# Altium schematic symbol library MY.SchLib: 652 symbols (part 5 of 7)
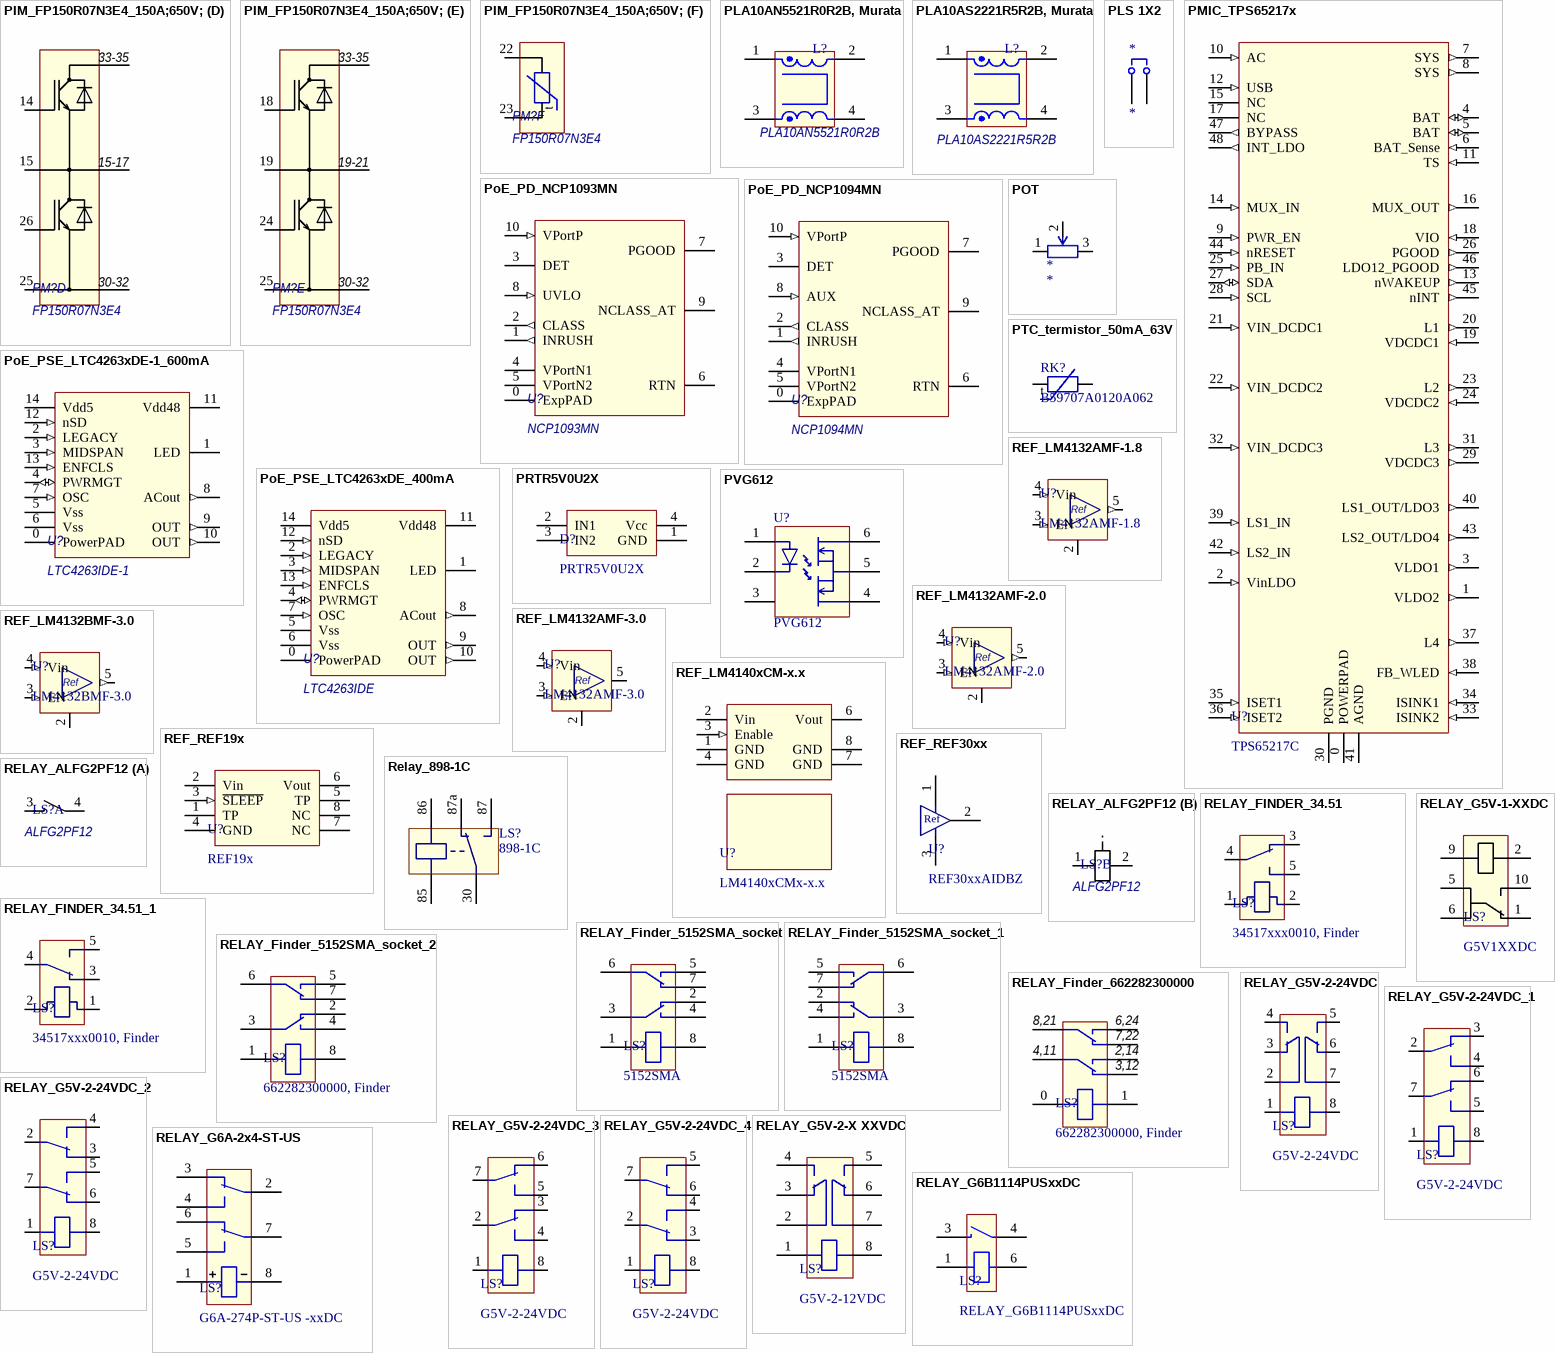
[diagram p45: symbols PIM_FP150R07N3E4_150A;650V; to RELAY_G6B1114PUSxxDC]

## PMIC_TPS65217x
designator U?, comment TPS65217C
footprint QFN48_0.4_TPS65217
pins: 0 POWERPAD (power), 1 VLDO2 (out), 2 VinLDO (in), 3 VLDO1 (out), 4 BAT (io), 5 BAT (io), 6 BAT_Sense (in), 7 SYS (out), 8 SYS (out), 9 PWR_EN (in), 10 AC (in), 11 TS (in), 12 USB (in), 13 nWAKEUP (out), 14 MUX_IN (in), 15 NC, 16 MUX_OUT (out), 17 NC, 18 VIO (in), 19 VDCDC1 (in), 20 L1 (out), 21 VIN_DCDC1 (in), 22 VIN_DCDC2 (in), 23 L2 (out), 24 VDCDC2 (in), 25 PB_IN (in), 26 PGOOD (out), 27 SDA (io), 28 SCL (in), 29 VDCDC3 (out), 30 PGND (power), 31 L3 (out), 32 VIN_DCDC3 (in), 33 ISINK2 (in), 34 ISINK1 (in), 35 ISET1 (in), 36 ISET2 (in), 37 L4 (out), 38 FB_WLED (in), 39 LS1_IN (in), 40 LS1_OUT/LDO3 (out), 41 AGND (power), 42 LS2_IN (in), 43 LS2_OUT/LDO4 (out), 44 nRESET (in), 45 nINT (out), 46 LDO12_PGOOD (out), 47 BYPASS (out), 48 INT_LDO (out)

## PoE_PD_NCP1093MN
designator U?, comment NCP1093MN
HelpURL: L:\Dev\Техническая документация\PoE\PD controllers\ONsemiconductor\NCP1093-D.PDF; ComponentLink1Description: Schematic; ComponentLink1URL: L:\Dev\Техническая документация\PoE\PD controllers\ONsemiconductor\NCP1094GEVB_SCHEMATIC.PDF
footprint DFN-10_3x3_0.5p
pins: 0 ExpPAD (power), 1 INRUSH (out), 2 CLASS (out), 3 DET (oc), 4 VPortN1 (power), 5 VPortN2 (power), 6 RTN (power), 7 PGOOD (oc), 8 UVLO (in), 9 NCLASS_AT (oc), 10 VPortP (in)

## PoE_PD_NCP1094MN
designator U?, comment NCP1094MN
HelpURL: L:\Dev\Техническая документация\PoE\PD controllers\ONsemiconductor\NCP1093-D.PDF
footprint DFN-10_3x3_0.5p
pins: 0 ExpPAD (power), 1 INRUSH (out), 2 CLASS (out), 3 DET (oc), 4 VPortN1 (power), 5 VPortN2 (power), 6 RTN (power), 7 PGOOD (oc), 8 AUX (in), 9 NCLASS_AT (oc), 10 VPortP (in)

## PoE_PSE_LTC4263xDE-1_600mA
designator U?, comment LTC4263IDE-1
Analog: LTC4263CDE-1(0-70dg)
pins: 0 PowerPAD (power), 1 LED (oc), 2 LEGACY (in), 3 MIDSPAN (in), 4 PWRMGT (io), 5 Vss (power), 6 Vss (power), 7 OSC (in), 8 ACout (out), 9 OUT (out), 10 OUT (out), 11 Vdd48, 12 nSD (in), 13 ENFCLS (in), 14 Vdd5 (power)

## PoE_PSE_LTC4263xDE_400mA
designator U?, comment LTC4263IDE
Analog: LTC4263CDE(0-70dg);LTC4263IDE-1_600mA;LTC4263CDE-1(0-70dg); HelpURL: L:\Dev\Техническая документация\PoE\PSE controllers\LT\LTC4263.pdf
footprint DFN-14_3x4_0.5p_LT
pins: 0 PowerPAD (power), 1 LED (oc), 2 LEGACY (in), 3 MIDSPAN (in), 4 PWRMGT (io), 5 Vss (power), 6 Vss (power), 7 OSC (in), 8 ACout (out), 9 OUT (out), 10 OUT (out), 11 Vdd48, 12 nSD (in), 13 ENFCLS (in), 14 Vdd5 (power)

## POT
designator *
footprint PVC6(A)(D)(M)-HOR&3386(F)(P)(Y)
pins: 1, 2, 3

## PRTR5V0U2X
designator D?
footprint SOT143B
pins: 1 GND (power), 2 IN1 (power), 3 IN2 (power), 4 Vcc (power)

## PTC_termistor_50mA_63V
designator RK?, comment B59707A0120A062
Rr: 125Ohm; U: 63V; Ir: 50mA; Is: 90mA
footprint 1210
pins: 1, 2
text: t

## PVG612
designator U?
footprint DIP6
pins: 1, 2, 3, 4, 5, 6

## REF_LM4132AMF-1.8
designator U?, comment LM4132AMF-1.8
InitTolerance: 0.05%; Temperature _Coefficient: 20ppm; Vref: 1V8; HelpURL: L:\Dev\Техническая документация\Источники опорного напряжения\Выход по напряжению\LM4132.pdf
footprint SOT23-5
footprint SOT23 (SOT-23; 3 Leads; Body 3.0 x 2.5 mm, inc. leads (LxW max))
pins: 1 NC hidden, 2 GND, 3 EN (in), 4 Vin (in), 5 Vref (out)
text: Ref

## REF_LM4132AMF-2.0
designator U?, comment LM4132AMF-2.0
InitTolerance: 0.05%; Temperature _Coefficient: 20ppm; Vref: 2V0; HelpURL: L:\Dev\Техническая документация\Источники опорного напряжения\Выход по напряжению\LM4132.pdf
footprint SOT23-5
footprint SOT23 (SOT-23; 3 Leads; Body 3.0 x 2.5 mm, inc. leads (LxW max))
pins: 1 NC hidden, 2 GND, 3 EN (in), 4 Vin (in), 5 Vref (out)
text: Ref

## REF_LM4132AMF-3.0
designator U?, comment LM4132AMF-3.0
InitTolerance: 0.05%; Temperature _Coefficient: 20ppm; Vref: 3V0; HelpURL: L:\Dev\Техническая документация\Источники опорного напряжения\Выход по напряжению\LM4132.pdf
footprint SOT23-5
footprint SOT23 (SOT-23; 3 Leads; Body 3.0 x 2.5 mm, inc. leads (LxW max))
pins: 1 NC hidden, 2 GND, 3 EN (in), 4 Vin (in), 5 Vref (power)
text: Ref

## REF_LM4132BMF-3.0
designator U?, comment LM4132BMF-3.0
InitTolerance: 0.1%; Temperature _Coefficient: 20ppm; Vref: 3V0; HelpURL: L:\Dev\Техническая документация\Источники опорного напряжения\Выход по напряжению\LM4132.pdf
footprint SOT23-5
footprint SOT23 (SOT-23; 3 Leads; Body 3.0 x 2.5 mm, inc. leads (LxW max))
pins: 1 NC hidden, 2 GND, 3 EN (in), 4 Vin (in), 5 Vref (out)
text: Ref

## REF_LM4140xCM-x.x
designator U?, comment LM4140xCMx-x.x
IC
footprint SO8
pins: 1 GND (power), 2 Vin (power), 3 Enable (in), 4 GND (power), 6 Vout (power), 7 GND (power), 8 GND (power)

## REF_REF19x
designator U?, comment REF19x
IC
footprint SO8
pins: 1 TP (power), 2 Vin (power), 3 ~{SLEEP} (in), 4 GND (power), 5 TP (power), 6 Vout (power), 7 NC (power), 8 NC (power)

## REF_REF30xx
designator U?, comment REF30xxAIDBZ
footprint Model Name (Footprint not found)
footprint SOT23 (SOT-23; 3 Leads; Body 3.0 x 2.5 mm, inc. leads (LxW max))
pins: 1 IN (power), 2 OUT (power), 3 GND (power)
text: Ref

## Relay_898-1C
designator LS?, comment 898-1C
footprint Relay_898-1C...
pins: 30, 85, 86, 87, 87a

## RELAY_ALFG2PF12
designator LS?, comment value ALFG2PF12  (hidden comment: ALFG2PF12, Panasonic)
HelpURL: L:\Dev\Техническая документация\РЕЛЕ\Panasonic\LF-G_Series_22-31A.pdf; Price, $: 7$
footprint RELAY_ALFG
part A pins: 3, 4
part B pins: 1, 2

## RELAY_FINDER_34.51
designator LS?, comment 34517xxx0010, Finder
Answer: 93.11, цоколь; HelpURL: L:\Dev\Техническая документация\РЕЛЕ\Finder\34-series.pdf
footprint RELAY_34517xxx0010
pins: 1, 2, 3, 4, 5

## RELAY_FINDER_34.51_1
designator LS?, comment 34517xxx0010, Finder
Answer: 93.11, цоколь; HelpURL: L:\Dev\Техническая документация\РЕЛЕ\Finder\34-series.pdf
footprint RELAY_34517xxx0010
pins: 1, 2, 3, 4, 5

## RELAY_Finder_5152SMA_socket
designator LS?, comment 5152SMA
Answer: 405190240000, Finder, 406190240000, Finder
footprint Relay_95152SMA_Socket&405190240000
pins: 1, 2, 3, 4, 5, 6, 7, 8

## RELAY_Finder_5152SMA_socket_1
designator LS?, comment 5152SMA
Answer: 405190240000, Finder, 406190240000, Finder
footprint Relay_95152SMA_Socket&405190240000
pins: 1, 2, 3, 4, 5, 6, 7, 8

## RELAY_Finder_5152SMA_socket_2
designator LS?, comment 662282300000, Finder
footprint Relay_95152SMA_Socket&405190240000
pins: 1, 2, 3, 4, 5, 6, 7, 8

## RELAY_Finder_662282300000
designator LS?, comment 662282300000, Finder
footprint RELAY_662282300000_Finder
pins: 0, 1, 2, 3, 4, 6, 7, 8, 11, 12, 14, 21, 22, 24
text: 8,21; 6,24; 7,22; 4,11; 2,14; 3,12

## RELAY_G5V-1-XXDC
designator LS?, comment G5V1XXDC
HelpURL: \\fileserver\библиотека\Unicont SPb\Equipment\Техническая документация\РЕЛЕ\OMRON\G5V1.pdf
footprint RELAY_G5V1
pins: 1, 2, 5, 6, 9, 10

## RELAY_G5V-2-24VDC
designator LS?, comment G5V-2-24VDC
Analog: *; HelpURL: L:\Dev\Техническая документация\РЕЛЕ\OMRON\omron~g5v2.pdf
footprint Relay_G5V-2
pins: 1, 2, 3, 4, 5, 6, 7, 8

## RELAY_G5V-2-24VDC_1
designator LS?, comment G5V-2-24VDC
Analog: *; HelpURL: L:\Dev\Техническая документация\РЕЛЕ\OMRON\omron~g5v2.pdf
footprint Relay_G5V-2
pins: 1, 2, 3, 4, 5, 6, 7, 8

## RELAY_G5V-2-24VDC_2
designator LS?, comment G5V-2-24VDC
Analog: V23105A5405A201, TE; V23105A5505A201, TE; HelpURL: L:\Dev\Техническая документация\РЕЛЕ\OMRON\omron~g5v2.pdf; ComponentLink1Description: Analog TE; ComponentLink1URL: L:\Dev\Техническая документация\РЕЛЕ\Tyco\te~v23105---d2n-relay.pdf
footprint Relay_G5V-2
pins: 1, 2, 3, 4, 5, 6, 7, 8

## RELAY_G5V-2-24VDC_3
designator LS?, comment G5V-2-24VDC
Analog: V23105A5405A201, TE; V23105A5505A201, TE; HelpURL: L:\Dev\Техническая документация\РЕЛЕ\OMRON\omron~g5v2.pdf; ComponentLink1Description: Analog TE; ComponentLink1URL: L:\Dev\Техническая документация\РЕЛЕ\Tyco\te~v23105---d2n-relay.pdf
footprint Relay_G5V-2
pins: 1, 2, 3, 4, 5, 6, 7, 8

## RELAY_G5V-2-24VDC_4
designator LS?, comment G5V-2-24VDC
Analog: V23105A5405A201, TE; V23105A5505A201, TE; HelpURL: L:\Dev\Техническая документация\РЕЛЕ\OMRON\omron~g5v2.pdf; ComponentLink1Description: Analog TE; ComponentLink1URL: L:\Dev\Техническая документация\РЕЛЕ\Tyco\te~v23105---d2n-relay.pdf
footprint Relay_G5V-2
pins: 1, 2, 3, 4, 5, 6, 7, 8

## RELAY_G5V-2-X XXVDC
designator LS?, comment G5V-2-12VDC
footprint Relay_G5V-2
pins: 1, 2, 3, 4, 5, 6, 7, 8

## RELAY_G6A-2x4-ST-US
designator LS?, comment G6A-274P-ST-US -xxDC
footprint Relay_G6A-2
pins: 1, 2, 3, 4, 5, 6, 7, 8

## RELAY_G6B1114PUSxxDC
designator LS?
footprint Relay_G6B-1114
pins: 1, 3, 4, 6

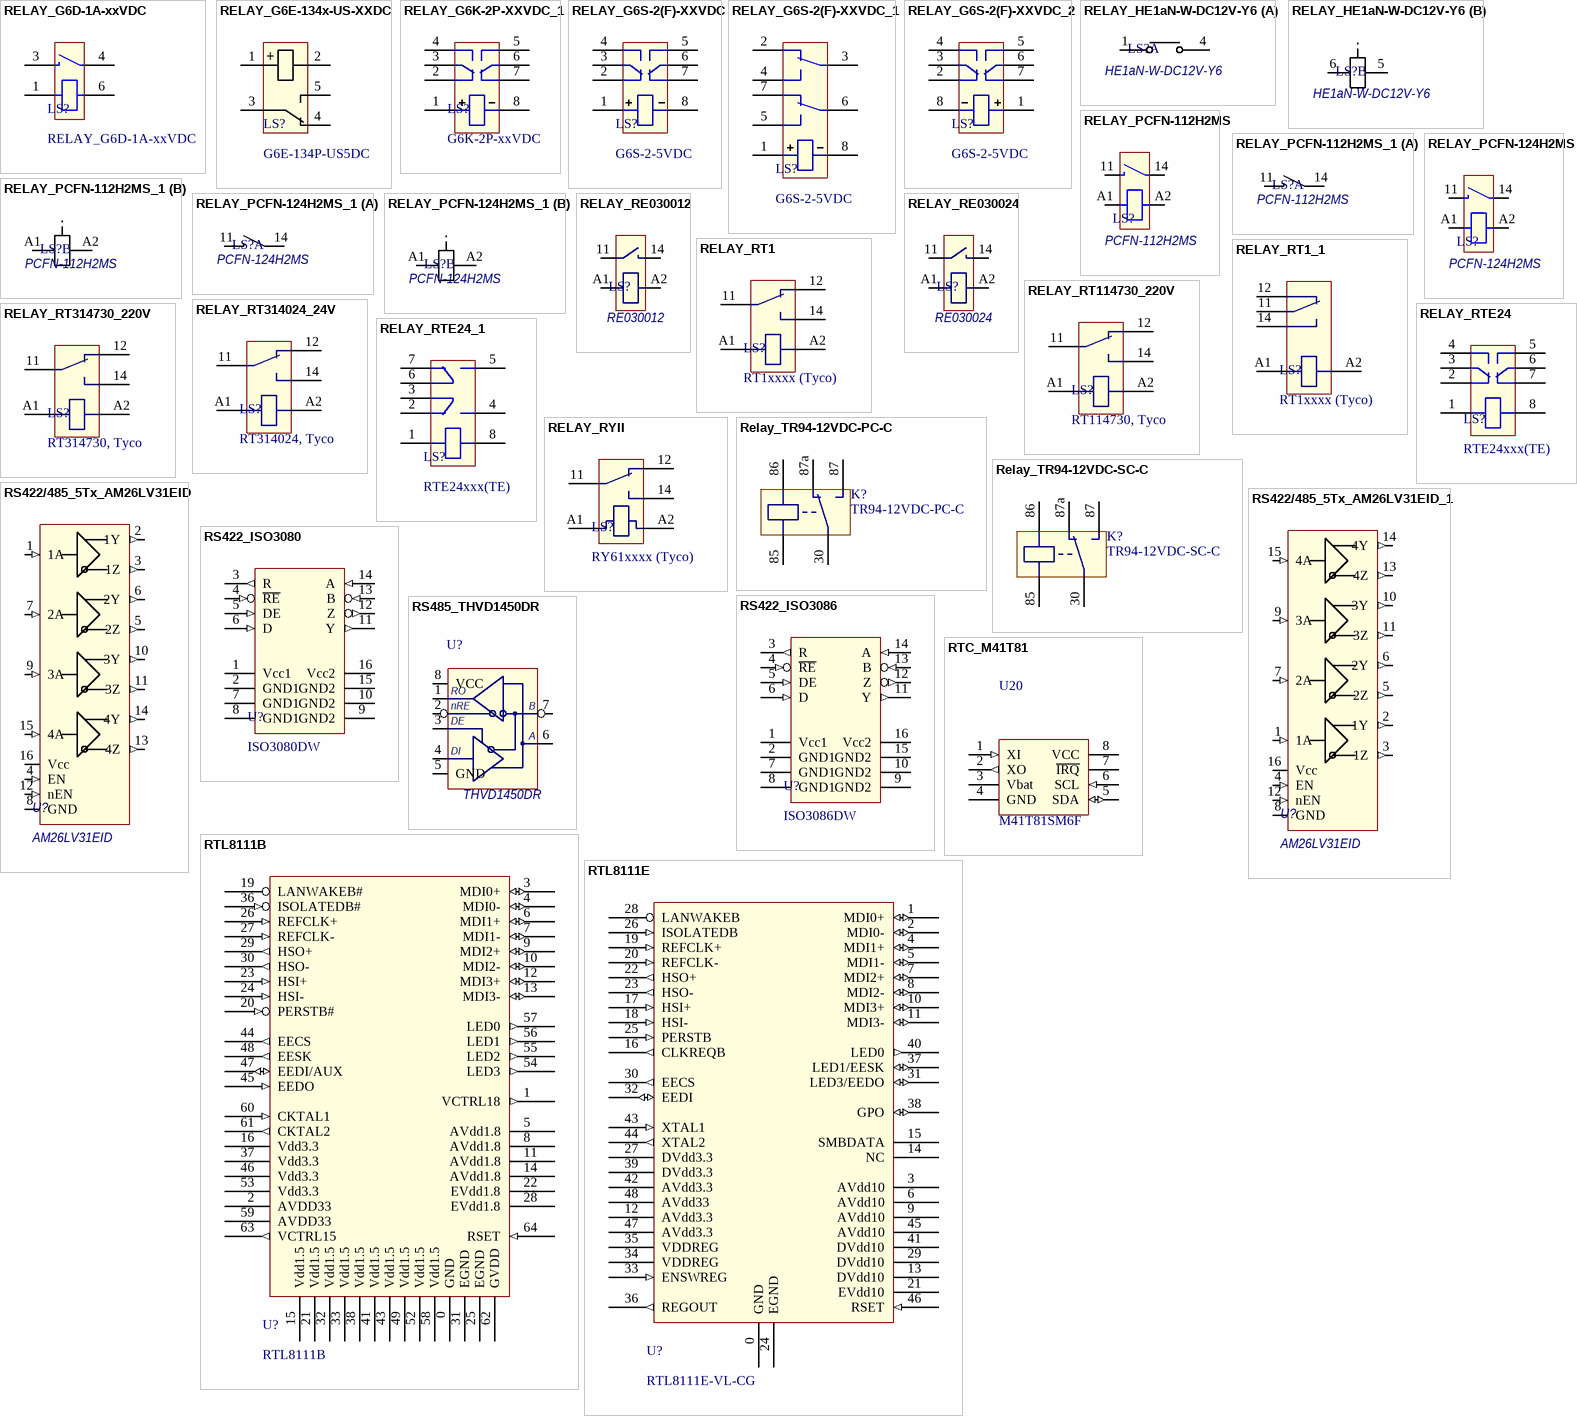
[diagram p24: symbols RELAY_G6D-1A-xxVDC to RTL8111E]

## RELAY_G6D-1A-xxVDC
designator LS?
HelpURL: L:\Dev\Техническая документация\РЕЛЕ\OMRON\G6D.pdf; ComponentLink1Description: Datasheet; ComponentLink1URL: L:\Dev\Техническая документация\РЕЛЕ\OMRON\G6D.pdf
footprint Relay_G6D
pins: 1, 3, 4, 6

## RELAY_G6E-134x-US-XXDC
designator LS?, comment G6E-134P-US5DC
HelpURL: \\fileserver\библиотека\Unicont SPb\Equipment\Техническая документация\РЕЛЕ\OMRON\G5V1.pdf
footprint RELAY_G6E
pins: 1 +, 2, 3, 4, 5

## RELAY_G6K-2P-XXVDC_1
designator LS?, comment G6K-2P-xxVDC
footprint Relay_G6K-2P(F,G)
pins: 1, 2, 3, 4, 5, 6, 7, 8

## RELAY_G6S-2(F)-XXVDC
designator LS?, comment G6S-2-5VDC
footprint Relay_G6S-2(F)
pins: 1, 2, 3, 4, 5, 6, 7, 8

## RELAY_G6S-2(F)-XXVDC_1
designator LS?, comment G6S-2-5VDC
footprint Relay_G6S-2(F)
pins: 1, 2, 3, 4, 5, 6, 7, 8

## RELAY_G6S-2(F)-XXVDC_2
designator LS?, comment G6S-2-5VDC
footprint Relay_G6S-2(F)
pins: 1, 2, 3, 4, 5, 6, 7, 8

## RELAY_HE1aN-W-DC12V-Y6
designator LS?, comment value HE1aN-W-DC12V-Y6  (hidden comment: HE1aN-W-DC12V-Y6, Panasonic)
HelpURL: L:\Dev\Техническая документация\РЕЛЕ\Panasonic\HE_series_35A_48A_90A.pdf; Price, $: 33$
footprint Relay_HE1aN-W-DCxxV-Y6
part A pins: 1, 4
part B pins: 5, 6

## RELAY_PCFN-112H2MS
designator LS?, comment value PCFN-112H2MS  (hidden comment: PCFN-112H2MS, TE)
HelpURL: L:\Dev\Техническая документация\РЕЛЕ\Tyco\Power_PCB_PCFN.pdf
footprint RELAY_PCFN
pins: 11, 14, A1, A2

## RELAY_PCFN-112H2MS_1
designator LS?, comment value PCFN-112H2MS  (hidden comment: PCFN-112H2MS, TE)
HelpURL: L:\Dev\Техническая документация\РЕЛЕ\Tyco\Power_PCB_PCFN.pdf; Price, $: 7$
footprint RELAY_PCFN
part A pins: 11, 14
part B pins: A1, A2

## RELAY_PCFN-124H2MS
designator LS?, comment value PCFN-124H2MS  (hidden comment: PCFN-124H2MS, TE)
HelpURL: L:\Dev\Техническая документация\РЕЛЕ\Tyco\Power_PCB_PCFN.pdf
footprint RELAY_PCFN
pins: 11, 14, A1, A2

## RELAY_PCFN-124H2MS_1
designator LS?, comment value PCFN-124H2MS  (hidden comment: PCFN-124H2MS, TE)
HelpURL: L:\Dev\Техническая документация\РЕЛЕ\Tyco\Power_PCB_PCFN.pdf
footprint RELAY_PCFN
part A pins: 11, 14
part B pins: A1, A2

## RELAY_RE030012
designator LS?, comment value RE030012  (hidden comment: RE030012, TE)
HelpURL: L:\Dev\Техническая документация\РЕЛЕ\Tyco\te~re03xxx.pdf
footprint RELAY_RE03xxxx
pins: 11, 14, A1, A2

## RELAY_RE030024
designator LS?, comment value RE030024  (hidden comment: RE030024, TE)
HelpURL: L:\Dev\Техническая документация\РЕЛЕ\Tyco\te~re03xxx.pdf
footprint RELAY_RE03xxxx
pins: 11, 14, A1, A2

## RELAY_RT1
designator LS?, comment RT1xxxx (Tyco)
Analog: TRIH-24VDC-SD-1CH-R (TS)
footprint RELAY_RT11
pins: 11, 12, 14, A1, A2

## RELAY_RT1_1
designator LS?, comment RT1xxxx (Tyco)
Analog: TRIH-24VDC-SD-1CH-R (TS)
footprint RELAY_RT11
pins: 11, 12, 14, A1, A2

## RELAY_RT114730_220V
designator LS?, comment RT114730, Tyco
HelpURL: L:\Dev\Техническая документация\РЕЛЕ\Tyco\te~rt1_power_relay.pdf
footprint RELAY_RT11
pins: 11, 12, 14, A1, A2

## RELAY_RT314024_24V
designator LS?, comment RT314024, Tyco
HelpURL: L:\Dev\Техническая документация\РЕЛЕ\Tyco\te~rt1_power_relay.pdf
footprint RELAY_RT31
pins: 11, 12, 14, A1, A2

## RELAY_RT314730_220V
designator LS?, comment RT314730, Tyco
HelpURL: L:\Dev\Техническая документация\РЕЛЕ\Tyco\te~rt1_power_relay.pdf
footprint RELAY_RT31
pins: 11, 12, 14, A1, A2

## RELAY_RTE24
designator LS?, comment RTE24xxx(TE)
Analog: G2RL (OMRON)
footprint Relay_TE24xxx_G2RL2
pins: 1, 2, 3, 4, 5, 6, 7, 8

## RELAY_RTE24_1
designator LS?, comment RTE24xxx(TE)
Analog: G2RL (OMRON)
footprint Relay_TE24xxx_G2RL2
pins: 1, 2, 3, 4, 5, 6, 7, 8

## RELAY_RYII
designator LS?, comment RY61xxxx (Tyco)
Analog: G2RL (OMRON)
footprint RELAY_RYII
pins: 11, 12, 14, A1, A2

## Relay_TR94-12VDC-PC-C
designator K?, comment TR94-12VDC-PC-C
footprint RELAY_TR94-xx-PC-C
pins: 30, 85, 86, 87, 87a

## Relay_TR94-12VDC-SC-C
designator K?, comment TR94-12VDC-SC-C
footprint RELAY_TR94-xx-SC-C
pins: 30, 85, 86, 87, 87a

## RS422/485_5Tx_AM26LV31EID
designator U?, comment AM26LV31EID
HelpURL: L:\Dev\Техническая документация\Интерфейсы\422-485\Driver_4xTx_am26lv31e.pdf
footprint SO16
pins: 1 1A (in), 2 1Y (out), 3 1Z (out), 4 EN (in), 5 2Z (out), 6 2Y (out), 7 2A (in), 8 GND (power), 9 3A (in), 10 3Y (out), 11 3Z (out), 12 nEN (in), 13 4Z (out), 14 4Y (out), 15 4A (in), 16 Vcc (power)

## RS422/485_5Tx_AM26LV31EID_1
designator U?, comment AM26LV31EID
HelpURL: L:\Dev\Техническая документация\Интерфейсы\422-485\Driver_4xTx_am26lv31e.pdf
footprint SO16
pins: 1 1A (in), 2 1Y (out), 3 1Z (out), 4 EN (in), 5 2Z (out), 6 2Y (out), 7 2A (in), 8 GND (power), 9 3A (in), 10 3Y (out), 11 3Z (out), 12 nEN (in), 13 4Z (out), 14 4Y (out), 15 4A (in), 16 Vcc (power)

## RS422_ISO3080
designator U?, comment ISO3080DW
Icc1: 10mA; DataRate: 200kbps; HelpURL: L:\Dev\Техническая документация\Интерфейсы\422-485\Isolate\iso3080_82_86_88.pdf
footprint SOW16
pins: 1 Vcc1 (power), 2 GND1 (power), 3 R (out), 4 ~{RE} (in), 5 DE (in), 6 D (in), 7 GND1 (power), 8 GND1 (power), 9 GND2 (power), 10 GND2 (power), 11 Y (out), 12 Z (out), 13 B (in), 14 A (in), 15 GND2 (power), 16 Vcc2 (power)

## RS422_ISO3086
designator U?, comment ISO3086DW
Icc1: 10mA; DataRate: 20Mbps; HelpURL: L:\Dev\Техническая документация\Интерфейсы\422-485\Isolate\iso3080_82_86_88.pdf
footprint SOW16
pins: 1 Vcc1 (power), 2 GND1 (power), 3 R (out), 4 ~{RE} (in), 5 DE (in), 6 D (in), 7 GND1 (power), 8 GND1 (power), 9 GND2 (power), 10 GND2 (power), 11 Y (out), 12 Z (out), 13 B (in), 14 A (in), 15 GND2 (power), 16 Vcc2 (power)

## RS485_THVD1450DR
designator U?, comment value THVD1450DR  (hidden comment: THVD1450DR, TI)
HelpURL: L:\Dev\Техническая документация\Интерфейсы\422-485\TI\thvd1450.pdf
footprint SO8
pins: 1 RO, 2 RE, 3, 4, 5 GND, 6, 7, 8 VCC
text: nRE; B; DE; A; DI

## RTC_M41T81
designator U20, comment M41T81SM6F
footprint SO8
pins: 1 XI (in), 2 XO (out), 3 Vbat (power), 4 GND (power), 5 SDA (io), 6 SCL (in), 7 ~{IRQ} (oc), 8 VCC (power)

## RTL8111B
designator U?
footprint QFN64
pins: 0 GND (power), 1 VCTRL18 (out) "Reg CTRL ext 1.8V power transistor", 2 AVDD33 (power), 3 MDI0+ (io) "GB_DATA", 4 MDI0- (io) "GB_DATA", 5 AVdd1.8 (power) "Analog 1.8V Power Supply", 6 MDI1+ (io) "GB_DATA", 7 MDI1- (io) "GB_DATA", 8 AVdd1.8 (power) "Analog 1.8V Power Supply", 9 MDI2+ (io) "GB_DATA", 10 MDI2- (io) "GB_DATA", 11 AVdd1.8 (power) "Analog 1.8V Power Supply", 12 MDI3+ (io) "GB_DATA", 13 MDI3- (io) "GB_DATA", 14 AVdd1.8 (power) "Analog 1.8V Power Supply", 15 Vdd1.5 (power) "Digital 1.5V Power Supply", 16 Vdd3.3 (power) "Digital 3.3V Power Supply", 17 NC hidden "NoConnect", 18 NC hidden "NoConnect", 19 LANWAKEB# (oc), 20 PERSTB# (in) "PCIe Reset", 21 Vdd1.5 (power) "Digital 1.5V Power Supply", 22 EVdd1.8 (power) "Analog 1.8V Power Supply", 23 HSI+ (in) "PCIe Receive", 24 HSI- (in) "PCIe Receive", 25 EGND (power), 26 REFCLK+ (in) "Clock source 100MHz", 27 REFCLK- (in) "Clock source 100MHz", 28 EVdd1.8 (power) "Analog 1.8V Power Supply", 29 HSO+ (out) "PCIe Transmit", 30 HSO- (out) "PCIe Transmit", 31 EGND (power), 32 Vdd1.5 (power) "Digital 1.5V Power Supply", 33 Vdd1.5 (power) "Digital 1.5V Power Supply", 34 NC hidden "NoConnect", 35 NC hidden "NoConnect", 36 ISOLATEDB# (in) "Isolate chip from PCIe bus", 37 Vdd3.3 (power) "Digital 3.3V Power Supply", 38 Vdd1.5 (power) "Digital 1.5V Power Supply", 39 NC hidden "NoConnect", 40 NC hidden "NoConnect", 41 Vdd1.5 (power) "Digital 1.5V Power Supply", 42 NC hidden "NoConnect", 43 Vdd1.5 (power) "Digital 1.5V Power Supply", 44 EECS (out) "EEPROM Chip Select", 45 EEDO (in) "Serial Data Input from EEPROM", 46 Vdd3.3 (power) "Digital 3.3V Power Supply", 47 EEDI/AUX (io) "Serial Data Output", 48 EESK (out) "Serial Data Clock", 49 Vdd1.5 (power) "Digital 1.5V Power Supply", 50 NC hidden "NoConnect", 51 NC hidden "NoConnect", 52 Vdd1.5 (power) "Digital 1.5V Power Supply", 53 Vdd3.3 (power) "Digital 3.3V Power Supply", 54 LED3 (out) "LINK 1000/Act", 55 LED2 (out) "FULL", 56 LED1 (out) "LINK100/Act", 57 LED0 (out) "LINK10/ACT", 58 Vdd1.5 (power) "Digital 1.5V Power Supply", 59 AVDD33 (power), 60 CKTAL1 (in) "Clock input 25MHz", 61 CKTAL2 (out) "Clock output 25MHz", 62 GVDD (power), 63 VCTRL15 (out) "Reg CTRL ext 1.5V power transistor", 64 RSET (in) "Ext Resistor reference"

## RTL8111E
designator U?, comment RTL8111E-VL-CG
footprint QFN48_0.4
pins: 0 GND (power), 1 MDI0+ (io) "GB_DATA", 2 MDI0- (io) "GB_DATA", 3 AVdd10 (power) "Analog 1.8V Power Supply", 4 MDI1+ (io) "GB_DATA", 5 MDI1- (io) "GB_DATA", 6 AVdd10 (power) "Analog 1.8V Power Supply", 7 MDI2+ (io) "GB_DATA", 8 MDI2- (io) "GB_DATA", 9 AVdd10 (power) "Analog 1.8V Power Supply", 10 MDI3+ (io) "GB_DATA", 11 MDI3- (io) "GB_DATA", 12 AVdd3.3 (power) "Digital 3.3V Power Supply", 13 DVdd10 (power) "Digital 1.5V Power Supply", 14 NC "Clock input 25MHz", 15 SMBDATA (oc) "GB_DATA", 16 CLKREQB (out) "CLK Request", 17 HSI+ (in) "PCIe Receive", 18 HSI- (in) "PCIe Receive", 19 REFCLK+ (in) "Clock source 100MHz", 20 REFCLK- (in) "Clock source 100MHz", 21 EVdd10 (power) "Analog 1.8V Power Supply", 22 HSO+ (out) "PCIe Transmit", 23 HSO- (out) "PCIe Transmit", 24 EGND (power), 25 PERSTB (in) "PCIe Reset", 26 ISOLATEDB (in) "Isolate chip from PCIe bus", 27 DVdd3.3 (power) "Digital 3.3V Power Supply", 28 LANWAKEB (oc), 29 DVdd10 (power) "Digital 1.5V Power Supply", 30 EECS (out) "EEPROM Chip Select", 31 LED3/EEDO (io) "Serial Data Input from EEPROM", 32 EEDI (io) "Serial Data Output", 33 ENSWREG (in), 34 VDDREG (power) "Digital 1.5V Power Supply", 35 VDDREG (power) "Digital 3.3V Power Supply", 36 REGOUT (out), 37 LED1/EESK (io) "LINK100/Act", 38 GPO (io) "LINK 1000/Act", 39 DVdd3.3 (power) "Digital 1.5V Power Supply", 40 LED0 (out) "LINK10/ACT", 41 DVdd10 (power) "Digital 1.5V Power Supply", 42 AVdd3.3 (power) "Digital 3.3V Power Supply", 43 XTAL1 (in) "Clock input 25MHz", 44 XTAL2 (out) "Clock output 25MHz", 45 AVdd10 (power) "Digital 1.5V Power Supply", 46 RSET (in) "Ext Resistor reference", 47 AVdd3.3 (power) "Digital 1.5V Power Supply", 48 AVdd33 (power)

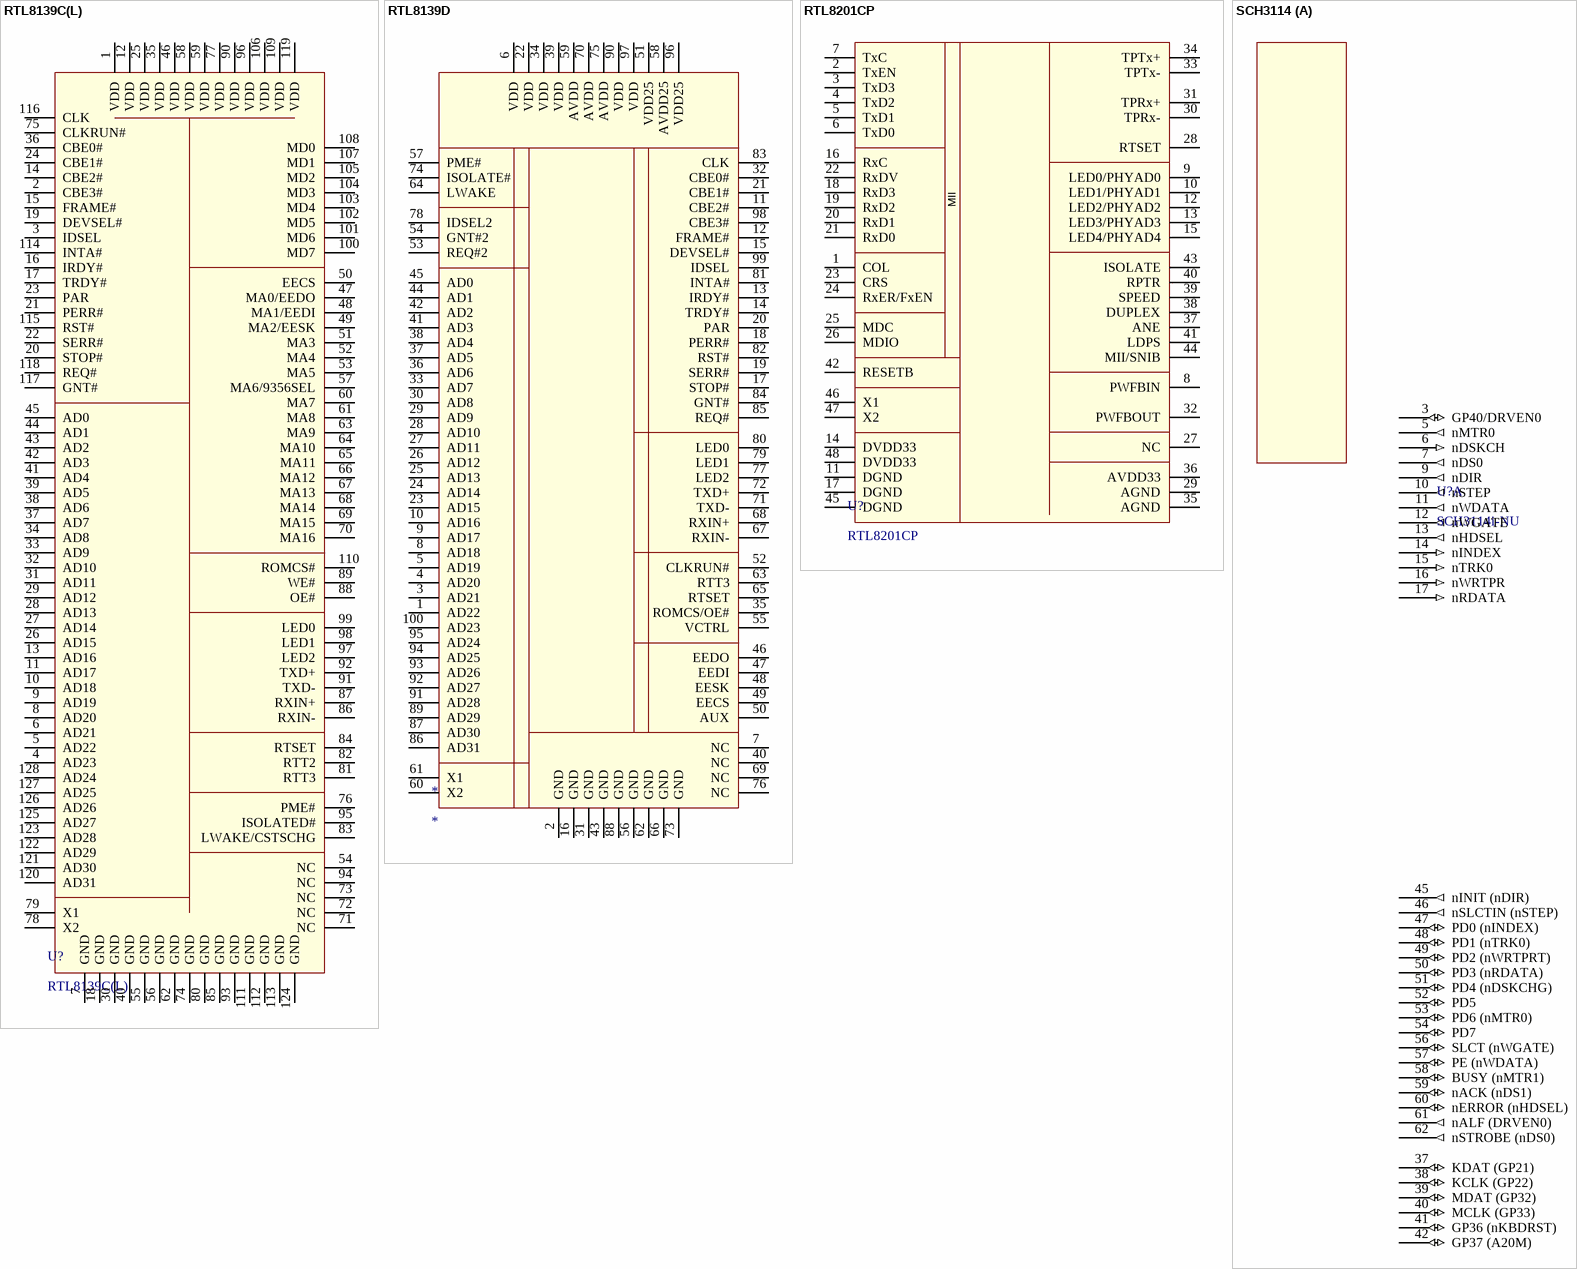
[diagram p25: symbols RTL8139C(L) to SCH3114]

## RTL8139C(L)
designator U?
footprint QFP128
pins: 1 VDD, 2 CBE3#, 3 IDSEL, 4 AD23, 5 AD22, 6 AD21, 7 GND, 8 AD20, 9 AD19, 10 AD18, 11 AD17, 12 VDD, 13 AD16, 14 CBE2#, 15 FRAME#, 16 IRDY#, 17 TRDY#, 18 GND, 19 DEVSEL#, 20 STOP#, 21 PERR#, 22 SERR#, 23 PAR, 24 CBE1#, 25 VDD, 26 AD15, 27 AD14, 28 AD13, 29 AD12, 30 GND, 31 AD11, 32 AD10, 33 AD9, 34 AD8, 35 VDD, 36 CBE0#, 37 AD7, 38 AD6, 39 AD5, 40 GND, 41 AD4, 42 AD3, 43 AD2, 44 AD1, 45 AD0, 46 VDD, 47 MA0/EEDO, 48 MA1/EEDI, 49 MA2/EESK, 50 EECS, 51 MA3, 52 MA4, 53 MA5, 54 NC, 55 GND, 56 GND, 57 MA6/9356SEL, 58 VDD, 59 VDD, 60 MA7, 61 MA8, 62 GND, 63 MA9, 64 MA10, 65 MA11, 66 MA12, 67 MA13, 68 MA14, 69 MA15, 70 MA16, 71 NC, 72 NC, 73 NC, 74 GND, 75 CLKRUN#, 76 PME#, 77 VDD, 78 X2, 79 X1, 80 GND, 81 RTT3, 82 RTT2, 83 LWAKE/CSTSCHG, 84 RTSET, 85 GND, 86 RXIN-, 87 RXIN+, 88 OE#, 89 WE#, 90 VDD, 91 TXD-, 92 TXD+, 93 GND, 94 NC, 95 ISOLATED#, 96 VDD, 97 LED2, 98 LED1, 99 LED0, 100 MD7, 101 MD6, 102 MD5, 103 MD4, 104 MD3, 105 MD2, 106 VDD, 107 MD1, 108 MD0, 109 VDD, 110 ROMCS#, 111 GND, 112 GND, 113 GND, 114 INTA#, 115 RST#, 116 CLK, 117 GNT#, 118 REQ#, 119 VDD, 120 AD31, 121 AD30, 122 AD29, 123 AD28, 124 GND, 125 AD27, 126 AD26, 127 AD25, 128 AD24

## RTL8139D
designator *
footprint QFP-100
pins: 1 AD22, 2 GND, 3 AD21, 4 AD20, 5 AD19, 6 VDD, 7 NC, 8 AD18, 9 AD17, 10 AD16, 11 CBE2#, 12 FRAME#, 13 IRDY#, 14 TRDY#, 15 DEVSEL#, 16 GND, 17 STOP#, 18 PERR#, 19 SERR#, 20 PAR, 21 CBE1#, 22 VDD, 23 AD15, 24 AD14, 25 AD13, 26 AD12, 27 AD11, 28 AD10, 29 AD9, 30 AD8, 31 GND, 32 CBE0#, 33 AD7, 34 VDD, 35 ROMCS/OE#, 36 AD6, 37 AD5, 38 AD4, 39 VDD, 40 NC, 41 AD3, 42 AD2, 43 GND, 44 AD1, 45 AD0, 46 EEDO, 47 EEDI, 48 EESK, 49 EECS, 50 AUX, 51 VDD25, 52 CLKRUN#, 53 REQ#2, 54 GNT#2, 55 VCTRL, 56 GND, 57 PME#, 58 AVDD25, 59 AVDD, 60 X2, 61 X1, 62 GND, 63 RTT3, 64 LWAKE, 65 RTSET, 66 GND, 67 RXIN-, 68 RXIN+, 69 NC, 70 AVDD, 71 TXD-, 72 TXD+, 73 GND, 74 ISOLATE#, 75 AVDD, 76 NC, 77 LED2, 78 IDSEL2, 79 LED1, 80 LED0, 81 INTA#, 82 RST#, 83 CLK, 84 GNT#, 85 REQ#, 86 AD31, 87 AD30, 88 GND, 89 AD29, 90 VDD, 91 AD28, 92 AD27, 93 AD26, 94 AD25, 95 AD24, 96 VDD25, 97 VDD, 98 CBE3#, 99 IDSEL, 100 AD23

## RTL8201CP
designator U?
footprint LQFP48
pins: 1 COL, 2 TxEN, 3 TxD3, 4 TxD2, 5 TxD1, 6 TxD0, 7 TxC, 8 PWFBIN, 9 LED0/PHYAD0, 10 LED1/PHYAD1, 11 DGND, 12 LED2/PHYAD2, 13 LED3/PHYAD3, 14 DVDD33, 15 LED4/PHYAD4, 16 RxC, 17 DGND, 18 RxD3, 19 RxD2, 20 RxD1, 21 RxD0, 22 RxDV, 23 CRS, 24 RxER/FxEN, 25 MDC, 26 MDIO, 27 NC, 28 RTSET, 29 AGND, 30 TPRx-, 31 TPRx+, 32 PWFBOUT, 33 TPTx-, 34 TPTx+, 35 AGND, 36 AVDD33, 37 ANE, 38 DUPLEX, 39 SPEED, 40 RPTR, 41 LDPS, 42 RESETB, 43 ISOLATE, 44 MII/SNIB, 45 DGND, 46 X1, 47 X2, 48 DVDD33
text: MII

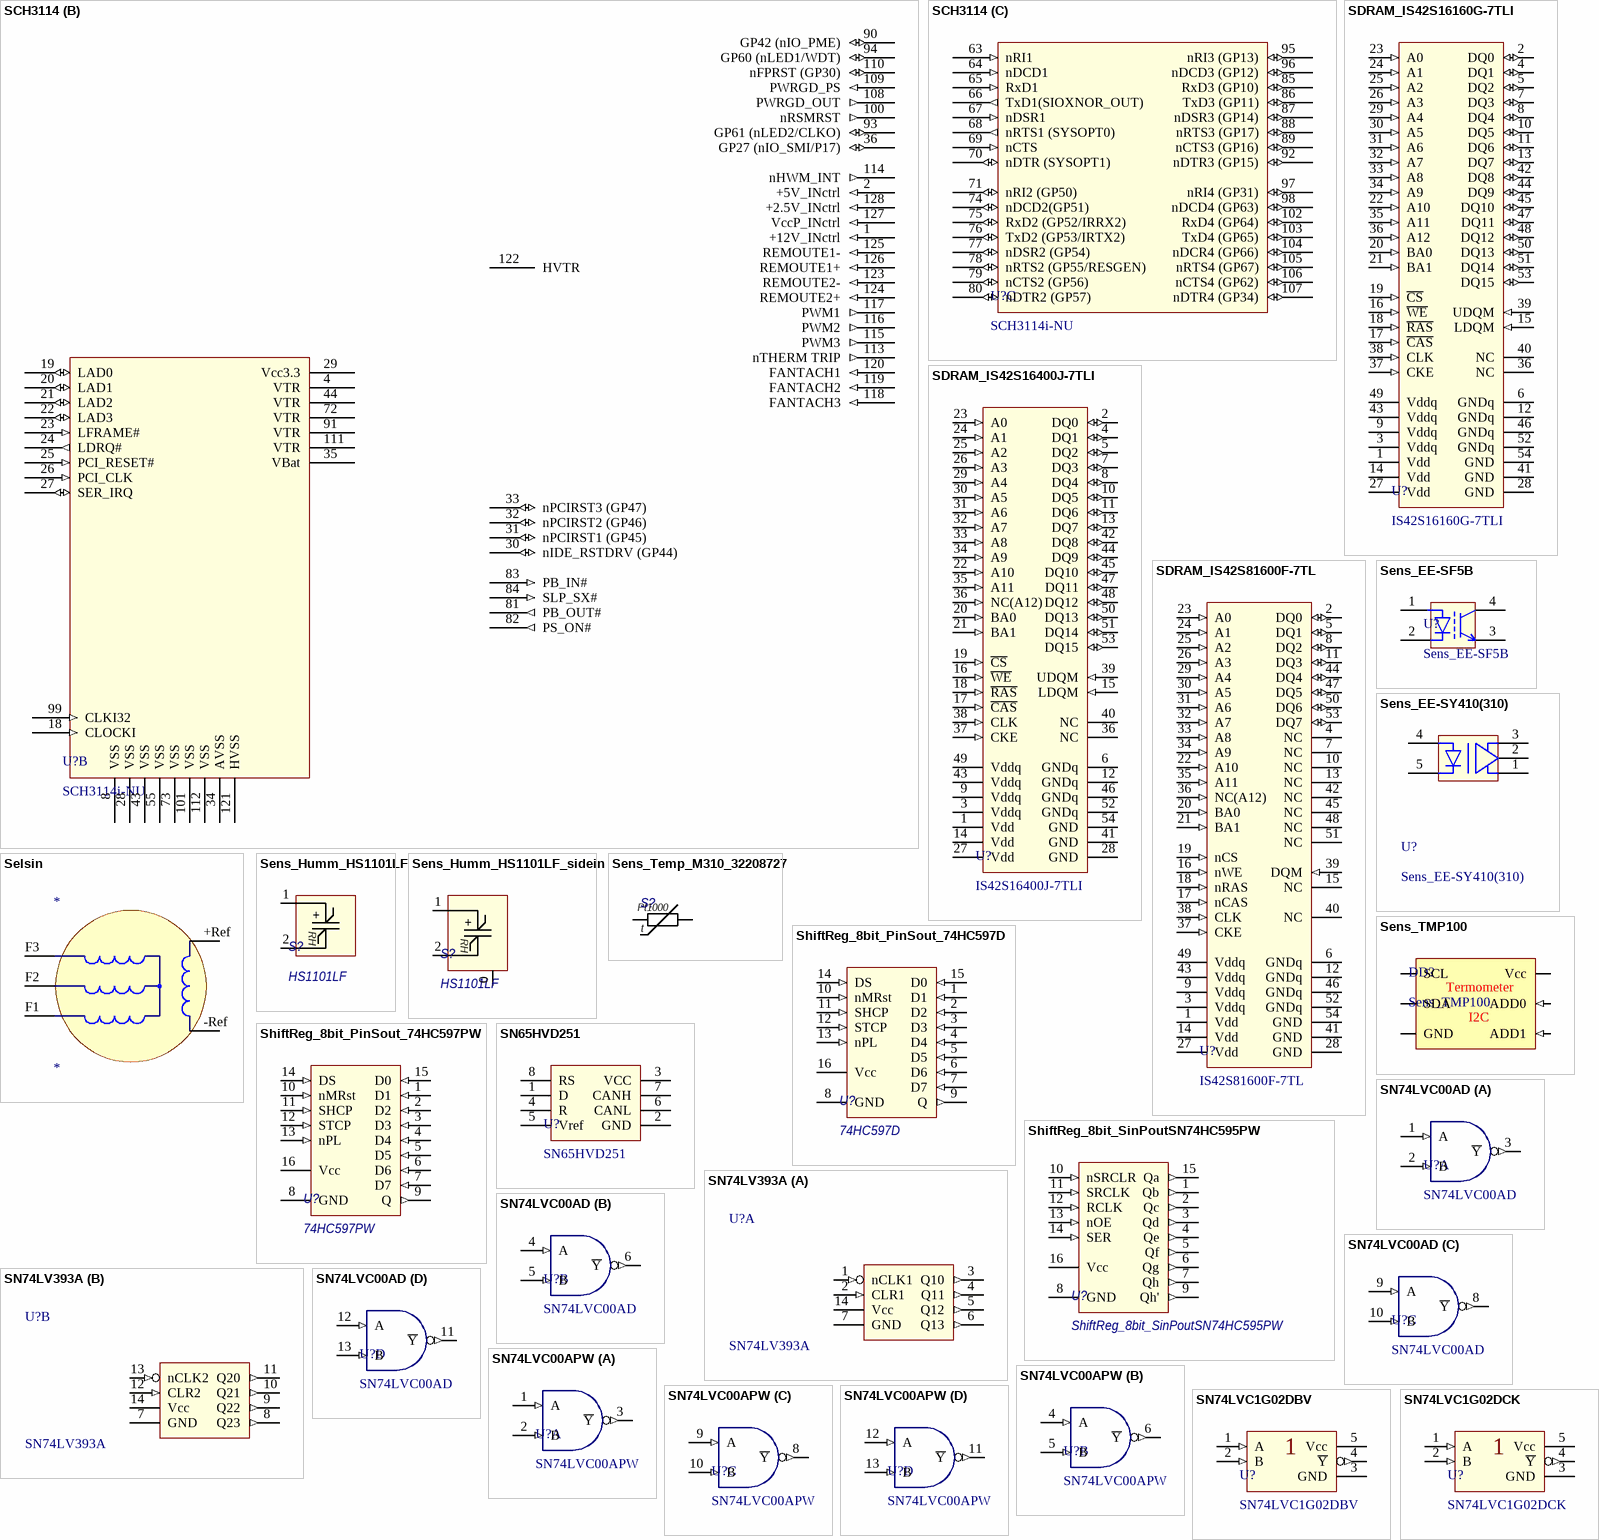
[diagram p26: symbols SCH3114 to SN74LVC1G02DCK]

## SCH3114
designator U?, comment SCH3114i-NU
part A pins: 3 GP40/DRVEN0 (io) "FDD Interface", 5 nMTR0 (out) "FDD Interface", 6 nDSKCH (in) "FDD Interface", 7 nDS0 (out) "FDD Interface", 9 nDIR (out) "FDD Interface", 10 nSTEP (out) "FDD Interface", 11 nWDATA (out) "FDD Interface", 12 nWGATE (out) "FDD Interface", 13 nHDSEL (out) "FDD Interface", 14 nINDEX (in) "FDD Interface", 15 nTRK0 (in) "FDD Interface", 16 nWRTPR (in) "FDD Interface", 17 nRDATA (in) "FDD Interface", 37 KDAT (GP21) (io) "Keyboard", 38 KCLK (GP22) (io) "Keyboard", 39 MDAT (GP32) (io) "Mouse", 40 MCLK (GP33) (io) "Mouse", 41 GP36 (nKBDRST) (io) "Keyboard reset", 42 GP37 (A20M) (io), 45 nINIT (nDIR) (out) "LPT/ FDC", 46 nSLCTIN (nSTEP) (out) "LPT/ FDC", 47 PD0 (nINDEX) (io) "LPT/ FDC", 48 PD1 (nTRK0) (io) "LPT/ FDC", 49 PD2 (nWRTPRT) (io) "LPT/ FDC", 50 PD3 (nRDATA) (io) "LPT/ FDC", 51 PD4 (nDSKCHG) (io) "LPT/ FDC", 52 PD5 (io) "LPT/ FDC", 53 PD6 (nMTR0) (io) "LPT/ FDC", 54 PD7 (io) "LPT/ FDC", 56 SLCT (nWGATE) (io) "LPT/ FDC", 57 PE (nWDATA) (io) "LPT/ FDC", 58 BUSY (nMTR1) (io) "LPT/ FDC", 59 nACK (nDS1) (io) "LPT/ FDC", 60 nERROR (nHDSEL) (io) "LPT/ FDC", 61 nALF (DRVEN0) (out) "LPT/ FDC", 62 nSTROBE (nDS0) (out) "LPT/ FDC"
part B pins: 1 +12V_INctrl (in) "Analog IN for monitoring +12V", 2 +5V_INctrl (in) "Analog IN for monitoring +5V", 4 VTR (power) "3.3V Standby Supply", 8 VSS (power) "GROUND", 18 CLOCKI (in) "14.318MHz Clk Input", 19 LAD0 (io) "LPC Bus", 20 LAD1 (io) "LPC Bus", 21 LAD2 (io) "LPC Bus", 22 LAD3 (io) "LPC Bus", 23 LFRAME# (in) "LPC Bus", 24 LDRQ# (out) "LPC Bus", 25 PCI_RESET# (in) "LPC Bus", 26 PCI_CLK (in) "LPC Bus", 27 SER_IRQ (io) "LPC Bus", 28 VSS (power) "GROUND", 29 Vcc3.3 (power) "3.3V Supply", 30 nIDE_RSTDRV (GP44) (io) "IDE Reset out", 31 nPCIRST1 (GP45) (io) "PCI Reset out1", 32 nPCIRST2 (GP46) (io) "PCI Reset out2", 33 nPCIRST3 (GP47) (io) "PCI Reset out3", 34 AVSS (power) "Analog GROUND", 35 VBat (power) "3.0 Bat Supply", 36 GP27 (nIO_SMI/P17) (io), 43 VSS (power) "GROUND", 44 VTR (power) "3.3V Standby Supply", 55 VSS (power) "GROUND", 72 VTR (power) "3.3V Standby Supply", 73 VSS (power) "GROUND", 81 PB_OUT# (out) "Power Button Out", 82 PS_ON# (out) "Power Supply On", 83 PB_IN# (in) "Power Button In", 84 SLP_SX# (in) "Sx Sleep State Input Pin", 90 GP42 (nIO_PME) (io) "MISCELLANEOUS", 91 VTR (power) "3.3V Standby Supply", 93 GP61 (nLED2/CLKO) (io), 94 GP60 (nLED1/WDT) (io) "MISCELLANEOUS", 99 CLKI32 (in) "32.768kHz Clk Input", 100 nRSMRST (out) "Resume Reset Output", 101 VSS (power) "GROUND", 108 PWRGD_OUT (out) "Power Good Input", 109 PWRGD_PS (in) "Power Good Input", 110 nFPRST (GP30) (io) "MISCELLANEOUS", 111 VTR (power) "3.3V Standby Supply", 112 VSS (power) "GROUND", 113 nTHERM TRIP (out) "Therm Trip Output", 114 nHWM_INT (out) "Interrupt out for Hardware monitor", 115 PWM3 (out) "Fan speed Control 3", 116 PWM2 (out) "Fan speed Control 2", 117 PWM1 (out) "Fan speed Control 1", 118 FANTACH3 (in) "Tachometr IN3", 119 FANTACH2 (in) "Tachometr IN2", 120 FANTACH1 (in) "Tachometr IN1", 121 HVSS (power) "Analog Ground", 122 HVTR (power) "Analog Power 3.3V", 123 REMOUTE2- (in) "NNegative IN for thermal diode 2", 124 REMOUTE2+ (in) "Positive IN for thermal diode 2", 125 REMOUTE1- (in) "NNegative IN for thermal diode 1", 126 REMOUTE1+ (in) "Positive IN for thermal diode 1", 127 VccP_INctrl (in) "Analog IN for monitoring +1.5V", 128 +2.5V_INctrl (in) "Analog IN for monitoring +2.5V"
part C pins: 63 nRI1 (in) "UART1", 64 nDCD1 (in) "UART1", 65 RxD1 (in) "UART1", 66 TxD1(SIOXNOR_OUT) (out) "UART1", 67 nDSR1 (in) "UART1", 68 nRTS1 (SYSOPT0) (out) "UART1", 69 nCTS (in) "UART1", 70 nDTR (SYSOPT1) (io) "UART1", 71 nRI2 (GP50) (io) "UART2", 74 nDCD2(GP51) (io) "UART2", 75 RxD2 (GP52/IRRX2) (io) "UART2", 76 TxD2 (GP53/IRTX2) (io) "UART2", 77 nDSR2 (GP54) (io) "UART2", 78 nRTS2 (GP55/RESGEN) (io) "UART2", 79 nCTS2 (GP56) (io) "UART2", 80 nDTR2 (GP57) (io) "UART2", 85 RxD3 (GP10) (io) "UART3", 86 TxD3 (GP11) (io) "UART3", 87 nDSR3 (GP14) (io) "UART3", 88 nRTS3 (GP17) (io) "UART3", 89 nCTS3 (GP16) (io) "UART3", 92 nDTR3 (GP15) (io) "UART3", 95 nRI3 (GP13) (io) "UART3", 96 nDCD3 (GP12) (io) "UART3", 97 nRI4 (GP31) (io) "UART4", 98 nDCD4 (GP63) (io) "UART4", 102 RxD4 (GP64) (io) "UART4", 103 TxD4 (GP65) (io) "UART4", 104 nDCR4 (GP66) (io) "UART4", 105 nRTS4 (GP67) (io) "UART4", 106 nCTS4 (GP62) (io) "UART4", 107 nDTR4 (GP34) (io) "UART4"

## SDRAM_IS42S16160G-7TLI
designator U?, comment IS42S16160G-7TLI
Supply Current max(A): 0.13; Freq_max: 143MHz; Analog: MT48LC16M16A2P-6AIT, MICRON; HelpURL: L:\Dev\Техническая документация\Память\SDRAM\42-45S83200G-16160G.pdf
footprint TSOP2-54_400mil_UNICONT (TSOP, 54-Leads, Body 22,22x10,16mm, Pitch 0,80mm, IPC Medium Density)
pins: 1 Vdd (power), 2 DQ0 (io), 3 Vddq (power), 4 DQ1 (io), 5 DQ2 (io), 6 GNDq (power), 7 DQ3 (io), 8 DQ4 (io), 9 Vddq (power), 10 DQ5 (io), 11 DQ6 (io), 12 GNDq (power), 13 DQ7 (io), 14 Vdd (power), 15 LDQM (in), 16 ~{WE} (in), 17 ~{CAS} (in), 18 ~{RAS} (in), 19 ~{CS} (in), 20 BA0 (in), 21 BA1 (in), 22 A10 (in), 23 A0 (in), 24 A1 (in), 25 A2 (in), 26 A3 (in), 27 Vdd (power), 28 GND (power), 29 A4 (in), 30 A5 (in), 31 A6 (in), 32 A7 (in), 33 A8 (in), 34 A9 (in), 35 A11 (in), 36 NC, 36 A12 (in), 37 CKE (in), 38 CLK (in), 39 UDQM (in), 40 NC, 41 GND (power), 42 DQ8 (io), 43 Vddq (power), 44 DQ9 (io), 45 DQ10 (io), 46 GNDq (power), 47 DQ11 (io), 48 DQ12 (io), 49 Vddq (power), 50 DQ13 (io), 51 DQ14 (io), 52 GNDq (power), 53 DQ15 (io), 54 GND (power)

## SDRAM_IS42S16400J-7TLI
designator U?, comment IS42S16400J-7TLI
Supply Current max(A): 0.13; HelpURL: L:\Dev\Техническая документация\Память\SDRAM\42-45S16400J.pdf
footprint TSOP2-54_400mil_UNICONT (TSOP, 54-Leads, Body 22,22x10,16mm, Pitch 0,80mm, IPC Medium Density)
pins: 1 Vdd (power), 2 DQ0 (io), 3 Vddq (power), 4 DQ1 (io), 5 DQ2 (io), 6 GNDq (power), 7 DQ3 (io), 8 DQ4 (io), 9 Vddq (power), 10 DQ5 (io), 11 DQ6 (io), 12 GNDq (power), 13 DQ7 (io), 14 Vdd (power), 15 LDQM (in), 16 ~{WE} (in), 17 ~{CAS} (in), 18 ~{RAS} (in), 19 ~{CS} (in), 20 BA0 (in), 21 BA1 (in), 22 A10 (in), 23 A0 (in), 24 A1 (in), 25 A2 (in), 26 A3 (in), 27 Vdd (power), 28 GND (power), 29 A4 (in), 30 A5 (in), 31 A6 (in), 32 A7 (in), 33 A8 (in), 34 A9 (in), 35 A11 (in), 36 NC, 36 NC(A12) (in), 37 CKE (in), 38 CLK (in), 39 UDQM (in), 40 NC, 41 GND (power), 42 DQ8 (io), 43 Vddq (power), 44 DQ9 (io), 45 DQ10 (io), 46 GNDq (power), 47 DQ11 (io), 48 DQ12 (io), 49 Vddq (power), 50 DQ13 (io), 51 DQ14 (io), 52 GNDq (power), 53 DQ15 (io), 54 GND (power)

## SDRAM_IS42S81600F-7TL
designator U?, comment IS42S81600F-7TL
Supply Current max(A): 0.13; HelpURL: L:\Dev\Техническая документация\Память\SDRAM\42-45S81600F-16800F.pdf
footprint TSOP2-54_400mil_UNICONT (TSOP, 54-Leads, Body 22,22x10,16mm, Pitch 0,80mm, IPC Medium Density)
pins: 1 Vdd (power), 2 DQ0 (io), 3 Vddq (power), 4 NC, 5 DQ1 (io), 6 GNDq (power), 7 NC, 8 DQ2 (io), 9 Vddq (power), 10 NC, 11 DQ3 (io), 12 GNDq (power), 13 NC, 14 Vdd (power), 15 NC, 16 nWE (in), 17 nCAS (in), 18 nRAS (in), 19 nCS (in), 20 BA0 (in), 21 BA1 (in), 22 A10 (in), 23 A0 (in), 24 A1 (in), 25 A2 (in), 26 A3 (in), 27 Vdd (power), 28 GND (power), 29 A4 (in), 30 A5 (in), 31 A6 (in), 32 A7 (in), 33 A8 (in), 34 A9 (in), 35 A11 (in), 36 NC(A12) (in), 37 CKE (in), 38 CLK (in), 39 DQM (in), 40 NC, 41 GND (power), 42 NC, 43 Vddq (power), 44 DQ4 (io), 45 NC, 46 GNDq (power), 47 DQ5 (io), 48 NC, 49 Vddq (power), 50 DQ6 (io), 51 NC (power), 52 GNDq (power), 53 DQ7 (io), 54 GND (power)

## Selsin
designator *
pins: +Ref, -Ref +Ref, F1, F2, F3

## Sens_EE-SF5B
designator U?
footprint Sens_EE-SF5B
pins: 1 A, 2 K, 3 E, 4 C

## Sens_EE-SY410(310)
designator U?
footprint Sens_EE-SY410(310)
pins: 1, 2, 3, 4, 5

## Sens_Humm_HS1101LF
designator S?, comment HS1101LF
HelpURL: L:\Dev\Техническая документация\Датчики\Датчики влажности\HS1101LF_TE_capaciive.pdf
footprint SENS_HUMM_HS1101LF
pins: 1 (power), 2 (power)
text: +; RH

## Sens_Humm_HS1101LF_sidein
designator S?, comment HS1101LF
HelpURL: L:\Dev\Техническая документация\Датчики\Датчики влажности\HS1101LF_TE_capaciive.pdf
footprint SENS_HUMM_HS1101LF_sidein
pins: 0 (power), 1 (power), 2 (power)
text: +; RH

## Sens_Temp_M310_32208727
designator S?, comment M310 (32208727, Heraeus  (value not drawn)
footprint Sens_Temp_M310
pins: 1, 2
text: Pt1000; t

## Sens_TMP100
designator DD?
TMP100; Value: *
footprint SOT23-6
pins: 1 SCL, 2 GND (power), 3 ADD1 (in), 4 Vcc (power), 5 ADD0 (in), 6 SDA (oc)
text: Termometer; I2C

## ShiftReg_8bit_PinSout_74HC597D
designator U?, comment 74HC597D
HelpURL: L:\Dev\Техническая документация\Логика\ShiftRegisters\ParallelIn_SeriaOut_74HC_HCT597(NXP).pdf
footprint SO16
pins: 1 D1 (in), 2 D2 (in), 3 D3 (in), 4 D4 (in), 5 D5 (in), 6 D6 (in), 7 D7 (in), 8 GND (power), 9 Q (out), 10 nMRst (in), 11 SHCP (in), 12 STCP (in), 13 nPL (in), 14 DS (in), 15 D0 (in), 16 Vcc (power)

## ShiftReg_8bit_PinSout_74HC597PW
designator U?, comment 74HC597PW
HelpURL: L:\Dev\Техническая документация\Логика\ShiftRegisters\ParallelIn_SeriaOut_74HC_HCT597(NXP).pdf
footprint TSSOP16
pins: 1 D1 (in), 2 D2 (in), 3 D3 (in), 4 D4 (in), 5 D5 (in), 6 D6 (in), 7 D7 (in), 8 GND (power), 9 Q (out), 10 nMRst (in), 11 SHCP (in), 12 STCP (in), 13 nPL (in), 14 DS (in), 15 D0 (in), 16 Vcc (power)

## ShiftReg_8bit_SinPoutSN74HC595PW
designator U?
HelpURL: L:\Dev\Техническая документация\Логика\ShiftRegisters\sn74hc595.pdf
footprint TSSOP16
pins: 1 Qb (out), 2 Qc (out), 3 Qd (out), 4 Qe (out), 5 Qf (out), 6 Qg (out), 7 Qh (out), 8 GND (power), 9 Qh' (out), 10 nSRCLR (in), 11 SRCLK (in), 12 RCLK (in), 13 nOE (in), 14 SER (in), 15 Qa (out), 16 Vcc (power)

## SN65HVD251
designator U?
footprint SO8
pins: 1 D, 2 GND, 3 VCC, 4 R, 5 Vref, 6 CANL, 7 CANH, 8 RS

## SN74LV393A
designator U?
footprint SO14
part A pins: 1 nCLK1 (in), 2 CLR1 (in), 3 Q10 (out), 4 Q11 (out), 5 Q12 (out), 6 Q13 (out), 7 GND (power), 14 Vcc (power)
part B pins: 7 GND (power), 8 Q23 (out), 9 Q22 (out), 10 Q21 (out), 11 Q20 (out), 12 CLR2 (in), 13 nCLK2 (in), 14 Vcc (power)

## SN74LVC00AD
designator U?
HelpURL: L:\Dev\Техническая документация\Логика\И-НЕ\sn74lvc00a.pdf
footprint SO14
part A pins: 1 A (in), 2 B (in), 3 ~{Y} (out), 7 GND (power) hidden to GND, 14 Vcc (power) hidden to Vcc
part B pins: 4 A (in), 5 B (in), 6 ~{Y} (out)
part C pins: 8 ~{Y} (out), 9 A (in), 10 B (in)
part D pins: 11 ~{Y} (out), 12 A (in), 13 B (in)

## SN74LVC00APW
designator U?
HelpURL: L:\Dev\Техническая документация\Логика\И-НЕ\sn74lvc00a.pdf
footprint TSSOP14
part A pins: 1 A (in), 2 B (in), 3 ~{Y} (out), 7 GND (power) hidden to GND, 14 Vcc (power) hidden to Vcc
part B pins: 4 A (in), 5 B (in), 6 ~{Y} (out)
part C pins: 8 ~{Y} (out), 9 A (in), 10 B (in)
part D pins: 11 ~{Y} (out), 12 A (in), 13 B (in)

## SN74LVC1G02DBV
designator U?
footprint SOT23-5
pins: 1 A (in), 2 B (in), 3 GND (power), 4 ~{Y} (out), 5 Vcc (power)

## SN74LVC1G02DCK
designator U?
footprint SC-70-5
pins: 1 A (in), 2 B (in), 3 GND (power), 4 ~{Y} (out), 5 Vcc (power)

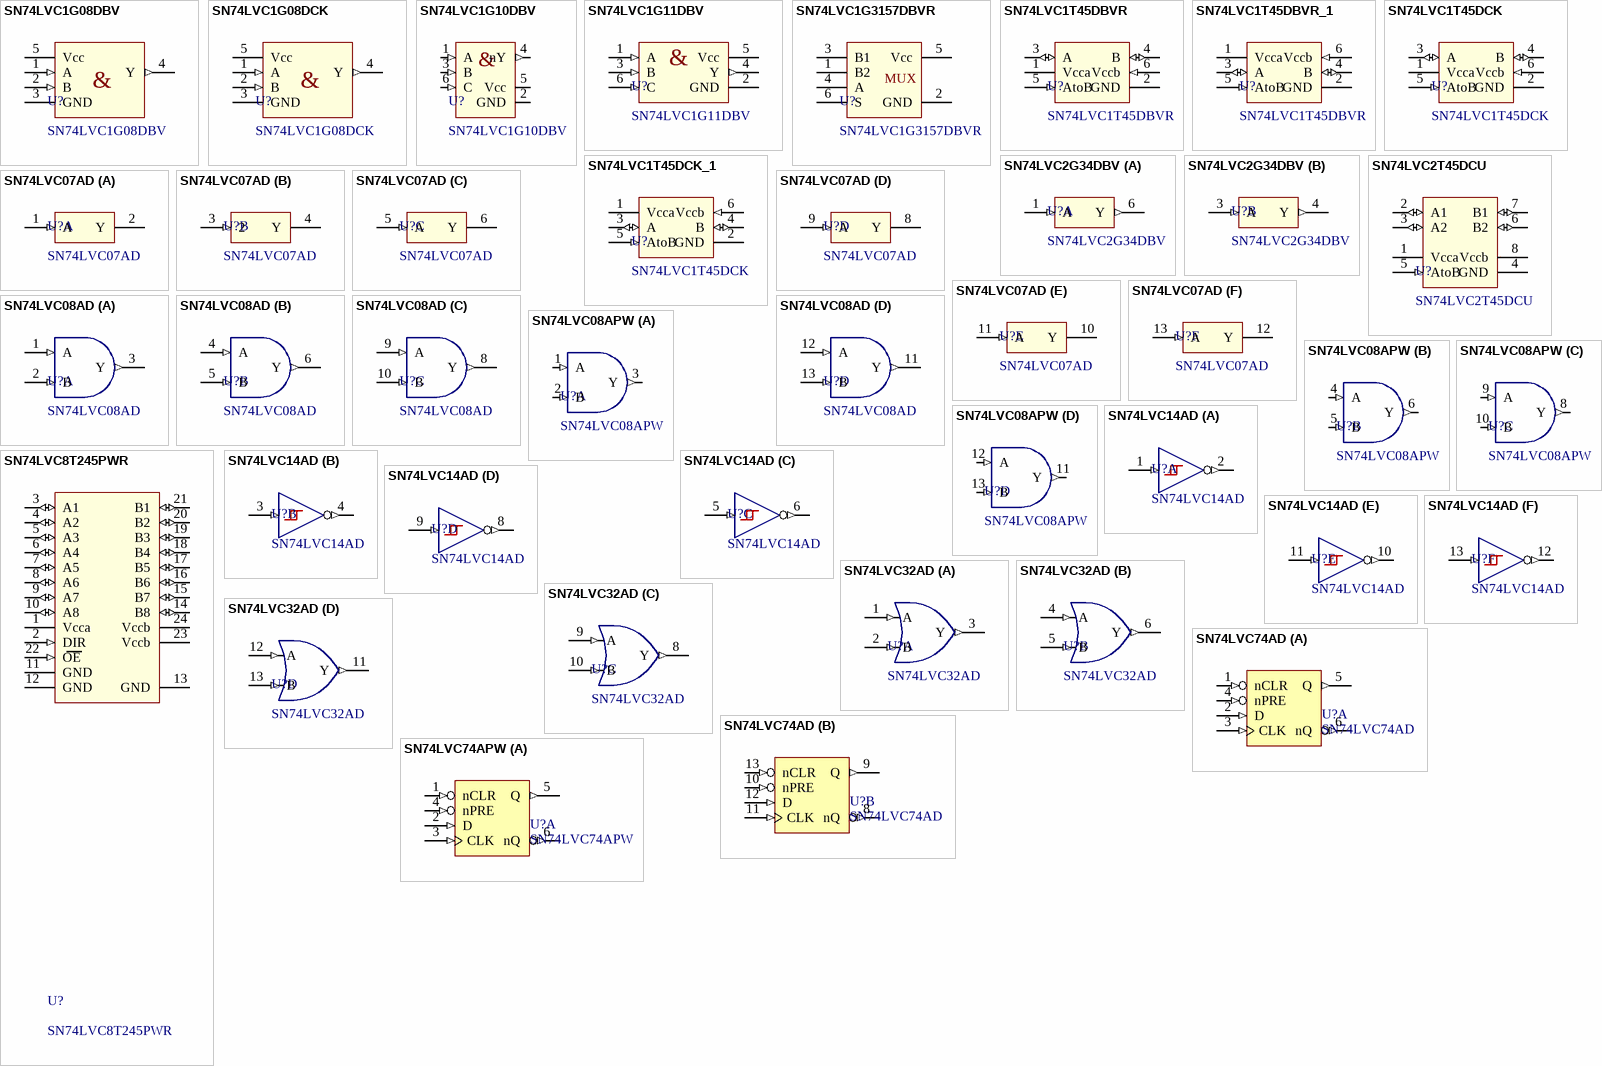
[diagram p27: symbols SN74LVC1G08DBV to SN74LVC74APW]

## SN74LVC1G08DBV
designator U?
footprint SOT23-5
pins: 1 A (in), 2 B (in), 3 GND (power), 4 Y (out), 5 Vcc (power)
text: &

## SN74LVC1G08DCK
designator U?
footprint SC-70-5
pins: 1 A (in), 2 B (in), 3 GND (power), 4 Y (out), 5 Vcc (power)
text: &

## SN74LVC1G10DBV
designator U?
HelpURL: L:\Dev\Техническая документация\Логика\litle logic\sn74lvc1g10.pdf; Price, $: 0.25
footprint SOT23-6
pins: 1 A (in), 2 GND (power), 3 B (in), 4 nY (out), 5 Vcc (power), 6 C (in)
text: &

## SN74LVC1G11DBV
designator U?
footprint SOT23-6
pins: 1 A (in), 2 GND (power), 3 B (in), 4 Y (out), 5 Vcc (power), 6 C (in)
text: &

## SN74LVC1G3157DBVR
designator U?
footprint SOT23-6
pins: 1 B2 (power), 2 GND (power), 3 B1 (power), 4 A (power), 5 Vcc (power), 6 S (power)
text: MUX

## SN74LVC1T45DBVR
designator U?
IC; HelpURL: L:\Dev\Техническая документация\Логика\LevelTranslator\sn74lvc1t45_1bit_dualsupply.pdf
footprint SOT23-6
pins: 1 Vcca (power), 2 GND (power), 3 A (io), 4 B (io), 5 AtoB (in), 6 Vccb (in)

## SN74LVC1T45DBVR_1
designator U?, comment SN74LVC1T45DBVR
IC; HelpURL: L:\Dev\Техническая документация\Логика\LevelTranslator\sn74lvc1t45_1bit_dualsupply.pdf
footprint SOT23-6
pins: 1 Vcca (power), 2 GND (power), 3 A (io), 4 B (io), 5 AtoB (in), 6 Vccb (in)

## SN74LVC1T45DCK
designator U?
IC; HelpURL: L:\Dev\Техническая документация\Логика\LevelTranslator\sn74lvc1t45_1bit_dualsupply.pdf
footprint SC-70-6
pins: 1 Vcca (power), 2 GND (power), 3 A (io), 4 B (io), 5 AtoB (in), 6 Vccb (in)

## SN74LVC1T45DCK_1
designator U?, comment SN74LVC1T45DCK
IC; HelpURL: L:\Dev\Техническая документация\Логика\LevelTranslator\sn74lvc1t45_1bit_dualsupply.pdf
footprint SC-70-6
pins: 1 Vcca (power), 2 GND (power), 3 A (io), 4 B (io), 5 AtoB (in), 6 Vccb (in)

## SN74LVC2G34DBV
designator U?
HelpURL: L:\Dev\Техническая документация\Логика\Буферы\sn74lvc2g34.pdf
footprint SOT23-6
part A pins: 1 A (in), 6 Y (out)
part B pins: 2 GND (power) hidden to GND, 3 A (in), 4 Y (out), 5 VCC (power) hidden to VCC

## SN74LVC2T45DCU
designator U?
IC; HelpURL: L:\Dev\Техническая документация\Логика\LevelTranslator\sn74lvc2t45_2bit_dualsupply.pdf
footprint VSSOP8_R-PDSO-G8_TI
pins: 1 Vcca (power), 2 A1 (io), 3 A2 (io), 4 GND (power), 5 AtoB (in), 6 B2 (io), 7 B1 (io), 8 Vccb (power)

## SN74LVC07AD
designator U?
footprint SO14
part A pins: 1 A (in), 2 Y (oc), 7 GND (power) hidden to GND, 14 Vcc (power) hidden to Vcc
part B pins: 3 2 (in), 4 Y (oc)
part C pins: 5 A (in), 6 Y (oc)
part D pins: 8 Y (oc), 9 A (in)
part E pins: 10 Y (oc), 11 A (in)
part F pins: 12 Y (oc), 13 A (in)

## SN74LVC08AD
designator U?
footprint SO14
part A pins: 1 A (in), 2 B (in), 3 Y (out), 7 GND (power) hidden to GND, 14 Vcc (power) hidden
part B pins: 4 A (in), 5 B (in), 6 Y (out)
part C pins: 8 Y (out), 9 A (in), 10 B (in)
part D pins: 11 Y (out), 12 A (in), 13 B (in)

## SN74LVC08APW
designator U?
HelpURL: L:\Dev\Техническая документация\Логика\И\sn74lvc08a_2inAnd_Quad.pdf
footprint TSSOP14
part A pins: 1 A (in), 2 B (in), 3 Y (out), 7 GND (power) hidden to GND, 14 Vcc (power) hidden to Vcc
part B pins: 4 A (in), 5 B (in), 6 Y (out)
part C pins: 8 Y (out), 9 A (in), 10 B (in)
part D pins: 11 Y (out), 12 A (in), 13 B (in)

## SN74LVC8T245PWR
designator U?
footprint TSSOP24
pins: 1 Vcca (power), 2 DIR (in), 3 A1 (io), 4 A2 (io), 5 A3 (io), 6 A4 (io), 7 A5 (io), 8 A6 (io), 9 A7 (io), 10 A8 (io), 11 GND (power), 12 GND (power), 13 GND (power), 14 B8 (io), 15 B7 (io), 16 B6 (io), 17 B5 (io), 18 B4 (io), 19 B3 (io), 20 B2 (io), 21 B1 (io), 22 OE (in), 23 Vccb (power), 24 Vccb (power)

## SN74LVC14AD
designator U?
HelpURL: L:\Dev\Техническая документация\Логика\Триггеры\Триггеры Шмидта\sn74lvc14a.pdf
footprint SO14
part A pins: 1 (in), 2 (out), 7 GND (power) hidden to GND, 14 Vcc (power) hidden to Vcc
part B pins: 3 (in), 4 (out)
part C pins: 5 (in), 6 (out)
part D pins: 8 (out), 9 (in)
part E pins: 10 (out), 11 (in)
part F pins: 12 (out), 13 (in)

## SN74LVC32AD
designator U?
footprint SO14
part A pins: 1 A (in), 2 B (in), 3 Y (out), 7 GND (power) hidden to GND, 14 Vcc (power) hidden to Vcc
part B pins: 4 A (in), 5 B (in), 6 Y (out)
part C pins: 8 Y (out), 9 A (in), 10 B (in)
part D pins: 11 Y (out), 12 A (in), 13 B (in)

## SN74LVC74AD
designator U?
Dual D-Type Flip-Flop with Preset and Clear; HelpURL: L:\Dev\Техническая документация\Логика\Триггеры\RS&D\sn74lvc74a.pdf
footprint SO14
pins on every part: 7 GND (power) hidden to GND, 14 VCC (power) hidden
part A pins: 1 nCLR (in), 2 D (in), 3 CLK (in), 4 nPRE (in), 5 Q (out), 6 nQ (out)
part B pins: 8 nQ (out), 9 Q (out), 10 nPRE (in), 11 CLK (in), 12 D (in), 13 nCLR (in)

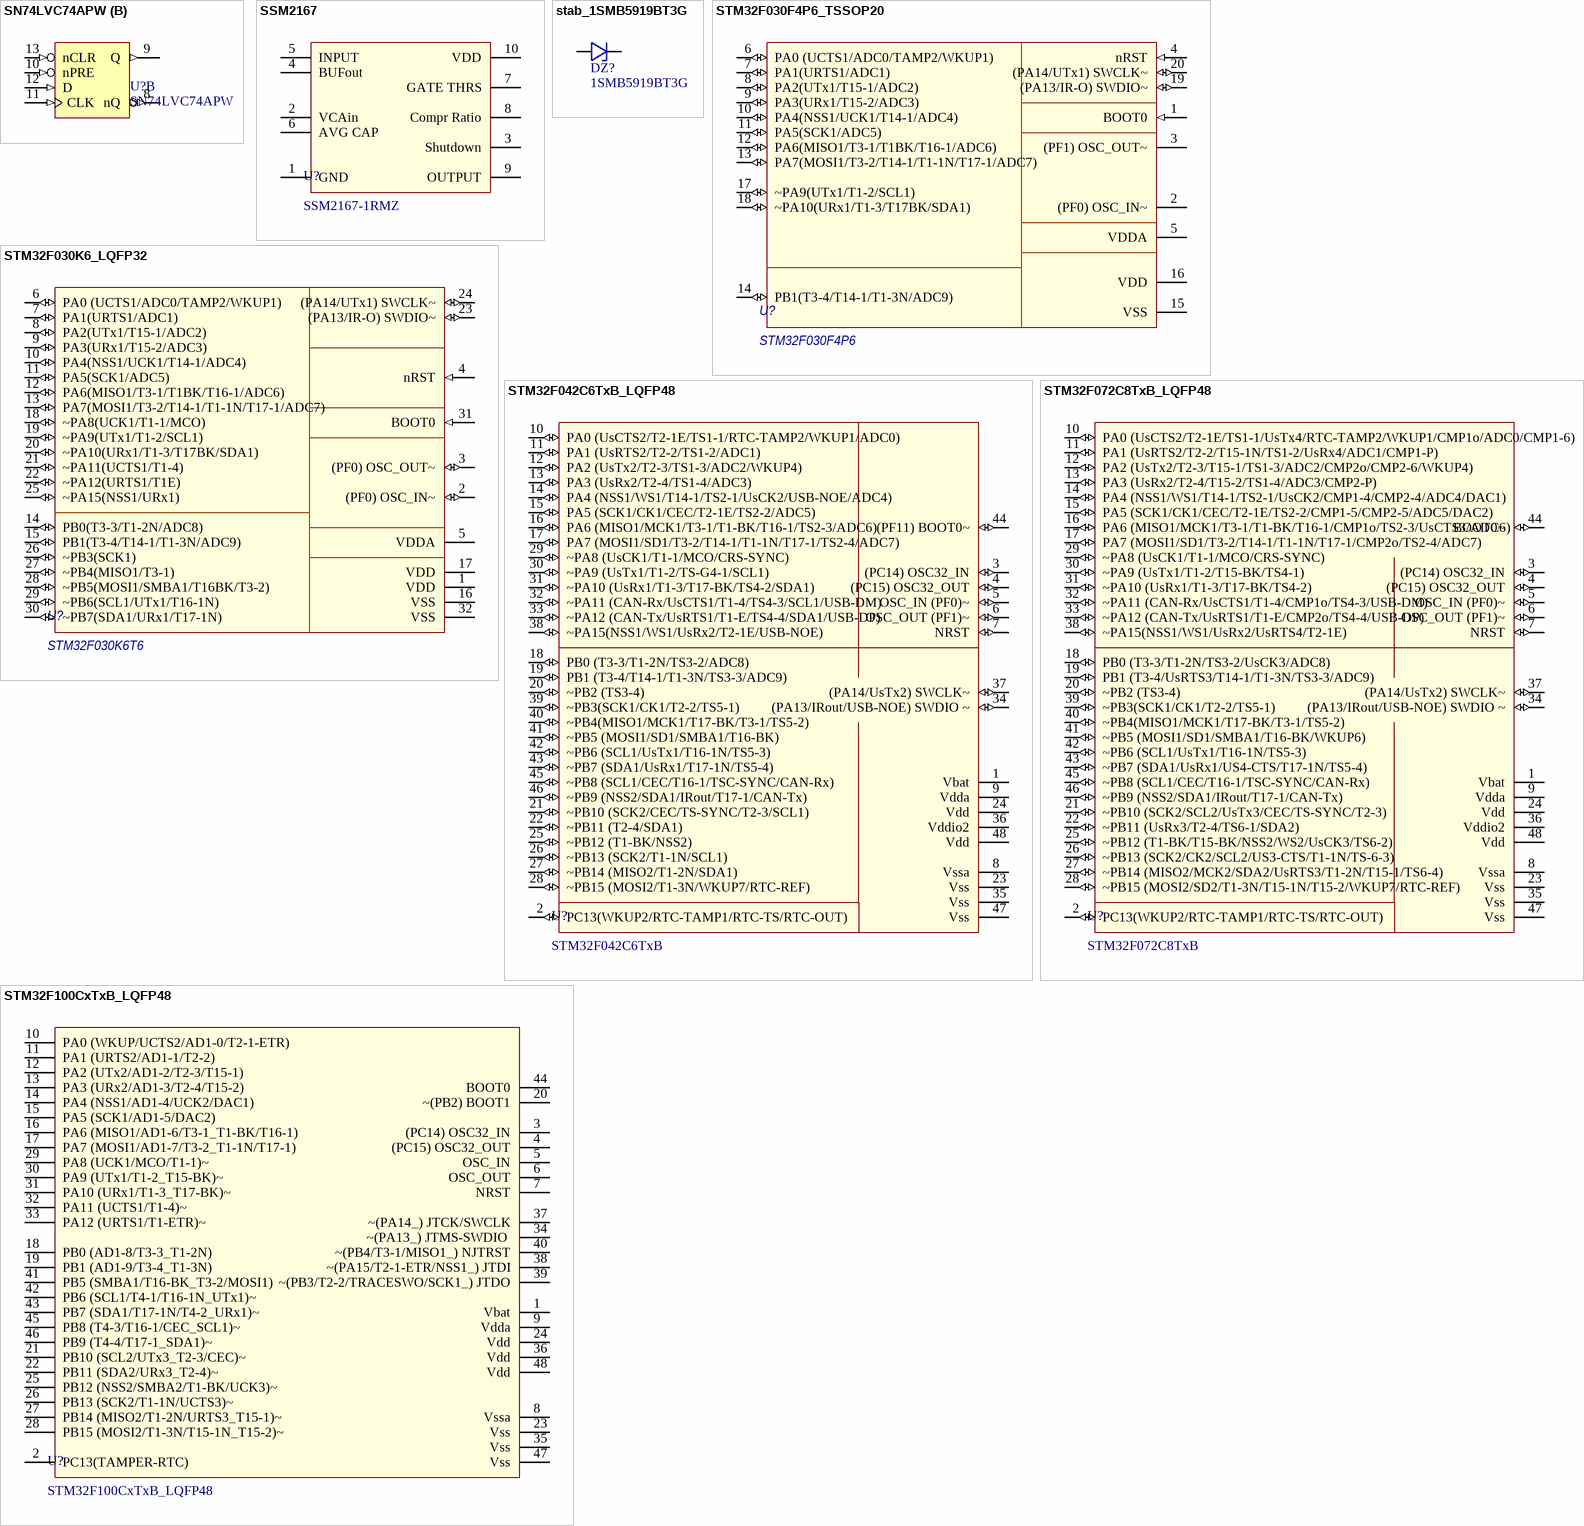
[diagram p28: symbols SN74LVC74APW to STM32F100CxTxB_LQFP48]

## SN74LVC74APW
designator U?
Dual D-Type Flip-Flop with Preset and Clear; HelpURL: L:\Dev\Техническая документация\Логика\Триггеры\RS&D\sn74lvc74a.pdf
footprint TSSOP14
pins on every part: 7 GND (power) hidden to GND, 14 VCC (power) hidden
part A pins: 1 nCLR (in), 2 D (in), 3 CLK (in), 4 nPRE (in), 5 Q (out), 6 nQ (out)
part B pins: 8 nQ (out), 9 Q (out), 10 nPRE (in), 11 CLK (in), 12 D (in), 13 nCLR (in)

## SSM2167
designator U?, comment SSM2167-1RMZ
Микрофонный усилитель с  АРУ
footprint MSOP10
pins: 1 GND, 2 VCAin, 3 Shutdown, 4 BUFout, 5 INPUT, 6 AVG CAP, 7 GATE THRS, 8 Compr Ratio, 9 OUTPUT, 10 VDD

## stab_1SMB5919BT3G
designator DZ?, comment 1SMB5919BT3G
Vz: 5.6V; PowerDissipation: 3W
footprint SMB_DO-214AA
pins: 1, 2

## STM32F030F4P6_TSSOP20
designator U?, comment STM32F030F4P6
HelpURL: L:\Dev\Техническая документация\Микроконтроллеры\ST\0xx\STM32F030\Datasheet_STM32F030xxx.pdf; ComponentLink1Description: Datasheet; ComponentLink2Description: Reference Manual; ComponentLink1URL: L:\Dev\Техническая документация\Микроконтроллеры\ST\0xx\STM32F030\Datasheet_STM32F030xxx.pdf; ComponentLink2URL: L:\Dev\Техническая документация\Микроконтроллеры\ST\0xx\STM32F030\Reference_manual_en.DM00091010.pdf
footprint TSSOP20
pins: 1 BOOT0 (in), 2 (PF0) OSC_IN~, 3 (PF1) OSC_OUT~, 4 nRST (in), 5 VDDA (power), 6 PA0 (UCTS1/ADC0/TAMP2/WKUP1) (io), 7 PA1(URTS1/ADC1) (io), 8 PA2(UTx1/T15-1/ADC2) (io), 9 PA3(URx1/T15-2/ADC3) (io), 10 PA4(NSS1/UCK1/T14-1/ADC4) (io), 11 PA5(SCK1/ADC5) (io), 12 PA6(MISO1/T3-1/T1BK/T16-1/ADC6) (io), 13 PA7(MOSI1/T3-2/T14-1/T1-1N/T17-1/ADC7) (io), 14 PB1(T3-4/T14-1/T1-3N/ADC9) (io), 15 VSS (power), 16 VDD (power), 17 ~PA9(UTx1/T1-2/SCL1) (io), 18 ~PA10(URx1/T1-3/T17BK/SDA1) (io), 19 (PA13/IR-O) SWDIO~ (io), 20 (PA14/UTx1) SWCLK~ (io)

## STM32F030K6_LQFP32
designator U?, comment STM32F030K6T6
HelpURL: L:\Dev\Техническая документация\Микроконтроллеры\ST\0xx\STM32F030\Datasheet_STM32F030xxx.pdf; ComponentLink1Description: Datasheet; ComponentLink2Description: Reference Manual; ComponentLink1URL: L:\Dev\Техническая документация\Микроконтроллеры\ST\0xx\STM32F030\Datasheet_STM32F030xxx.pdf; ComponentLink2URL: L:\Dev\Техническая документация\Микроконтроллеры\ST\0xx\STM32F030\Reference_manual_en.DM00091010.pdf
footprint TQFP32 (QFP; 32 Leads; Body 7 x 7 mm; Pitch 0.8 mm)
pins: 1 VDD (power), 2 (PF0) OSC_IN~ (io), 3 (PF0) OSC_OUT~ (io), 4 nRST (in), 5 VDDA (power), 6 PA0 (UCTS1/ADC0/TAMP2/WKUP1) (io), 7 PA1(URTS1/ADC1) (io), 8 PA2(UTx1/T15-1/ADC2) (io), 9 PA3(URx1/T15-2/ADC3) (io), 10 PA4(NSS1/UCK1/T14-1/ADC4) (io), 11 PA5(SCK1/ADC5) (io), 12 PA6(MISO1/T3-1/T1BK/T16-1/ADC6) (io), 13 PA7(MOSI1/T3-2/T14-1/T1-1N/T17-1/ADC7) (io), 14 PB0(T3-3/T1-2N/ADC8) (io), 15 PB1(T3-4/T14-1/T1-3N/ADC9) (io), 16 VSS (power), 17 VDD (power), 18 ~PA8(UCK1/T1-1/MCO) (io), 19 ~PA9(UTx1/T1-2/SCL1) (io), 20 ~PA10(URx1/T1-3/T17BK/SDA1) (io), 21 ~PA11(UCTS1/T1-4) (io), 22 ~PA12(URTS1/T1E) (io), 23 (PA13/IR-O) SWDIO~ (io), 24 (PA14/UTx1) SWCLK~ (io), 25 ~PA15(NSS1/URx1) (io), 26 ~PB3(SCK1) (io), 27 ~PB4(MISO1/T3-1) (io), 28 ~PB5(MOSI1/SMBA1/T16BK/T3-2) (io), 29 ~PB6(SCL1/UTx1/T16-1N) (io), 30 ~PB7(SDA1/URx1/T17-1N) (io), 31 BOOT0 (in), 32 VSS (power)

## STM32F042C6TxB_LQFP48
designator U?, comment STM32F042C6TxB
footprint LQFP48_UNICONT
pins: 1 Vbat (power), 2 PC13(WKUP2/RTC-TAMP1/RTC-TS/RTC-OUT) (io), 3 (PC14) OSC32_IN (io), 4 (PC15) OSC32_OUT (io), 5 OSC_IN (PF0)~ (io), 6 OSC_OUT (PF1)~ (io), 7 NRST (io), 8 Vssa (power), 9 Vdda (power), 10 PA0 (UsCTS2/T2-1E/TS1-1/RTC-TAMP2/WKUP1/ADC0) (io), 11 PA1 (UsRTS2/T2-2/TS1-2/ADC1) (io), 12 PA2 (UsTx2/T2-3/TS1-3/ADC2/WKUP4) (io), 13 PA3 (UsRx2/T2-4/TS1-4/ADC3) (io), 14 PA4 (NSS1/WS1/T14-1/TS2-1/UsCK2/USB-NOE/ADC4) (io), 15 PA5 (SCK1/CK1/CEC/T2-1E/TS2-2/ADC5) (io), 16 PA6 (MISO1/MCK1/T3-1/T1-BK/T16-1/TS2-3/ADC6) (io), 17 PA7 (MOSI1/SD1/T3-2/T14-1/T1-1N/T17-1/TS2-4/ADC7) (io), 18 PB0 (T3-3/T1-2N/TS3-2/ADC8) (io), 19 PB1 (T3-4/T14-1/T1-3N/TS3-3/ADC9) (io), 20 ~PB2 (TS3-4) (io), 21 ~PB10 (SCK2/CEC/TS-SYNC/T2-3/SCL1) (io), 22 ~PB11 (T2-4/SDA1) (io), 23 Vss (power), 24 Vdd (power), 25 ~PB12 (T1-BK/NSS2) (io), 26 ~PB13 (SCK2/T1-1N/SCL1) (io), 27 ~PB14 (MISO2/T1-2N/SDA1) (io), 28 ~PB15 (MOSI2/T1-3N/WKUP7/RTC-REF) (io), 29 ~PA8 (UsCK1/T1-1/MCO/CRS-SYNC) (io), 30 ~PA9 (UsTx1/T1-2/TS-G4-1/SCL1) (io), 31 ~PA10 (UsRx1/T1-3/T17-BK/TS4-2/SDA1) (io), 32 ~PA11 (CAN-Rx/UsCTS1/T1-4/TS4-3/SCL1/USB-DM) (io), 33 ~PA12 (CAN-Tx/UsRTS1/T1-E/TS4-4/SDA1/USB-DP) (io), 34 (PA13/IRout/USB-NOE) SWDIO ~ (io), 35 Vss (power), 36 Vddio2 (power), 37 (PA14/UsTx2) SWCLK~ (io), 38 ~PA15(NSS1/WS1/UsRx2/T2-1E/USB-NOE) (io), 39 ~PB3(SCK1/CK1/T2-2/TS5-1) (io), 40 ~PB4(MISO1/MCK1/T17-BK/T3-1/TS5-2) (io), 41 ~PB5 (MOSI1/SD1/SMBA1/T16-BK) (io), 42 ~PB6 (SCL1/UsTx1/T16-1N/TS5-3) (io), 43 ~PB7 (SDA1/UsRx1/T17-1N/TS5-4) (io), 44 (PF11) BOOT0~ (io), 45 ~PB8 (SCL1/CEC/T16-1/TSC-SYNC/CAN-Rx) (io), 46 ~PB9 (NSS2/SDA1/IRout/T17-1/CAN-Tx) (io), 47 Vss (power), 48 Vdd (power)

## STM32F072C8TxB_LQFP48
designator U?, comment STM32F072C8TxB
footprint LQFP48_UNICONT
pins: 1 Vbat (power), 2 PC13(WKUP2/RTC-TAMP1/RTC-TS/RTC-OUT) (io), 3 (PC14) OSC32_IN (io), 4 (PC15) OSC32_OUT (io), 5 OSC_IN (PF0)~ (io), 6 OSC_OUT (PF1)~ (io), 7 NRST (io), 8 Vssa (power), 9 Vdda (power), 10 PA0 (UsCTS2/T2-1E/TS1-1/UsTx4/RTC-TAMP2/WKUP1/CMP1o/ADC0/CMP1-6) (io), 11 PA1 (UsRTS2/T2-2/T15-1N/TS1-2/UsRx4/ADC1/CMP1-P) (io), 12 PA2 (UsTx2/T2-3/T15-1/TS1-3/ADC2/CMP2o/CMP2-6/WKUP4) (io), 13 PA3 (UsRx2/T2-4/T15-2/TS1-4/ADC3/CMP2-P) (io), 14 PA4 (NSS1/WS1/T14-1/TS2-1/UsCK2/CMP1-4/CMP2-4/ADC4/DAC1) (io), 15 PA5 (SCK1/CK1/CEC/T2-1E/TS2-2/CMP1-5/CMP2-5/ADC5/DAC2) (io), 16 PA6 (MISO1/MCK1/T3-1/T1-BK/T16-1/CMP1o/TS2-3/UsCTS3/ADC6) (io), 17 PA7 (MOSI1/SD1/T3-2/T14-1/T1-1N/T17-1/CMP2o/TS2-4/ADC7) (io), 18 PB0 (T3-3/T1-2N/TS3-2/UsCK3/ADC8) (io), 19 PB1 (T3-4/UsRTS3/T14-1/T1-3N/TS3-3/ADC9) (io), 20 ~PB2 (TS3-4) (io), 21 ~PB10 (SCK2/SCL2/UsTx3/CEC/TS-SYNC/T2-3) (io), 22 ~PB11 (UsRx3/T2-4/TS6-1/SDA2) (io), 23 Vss (power), 24 Vdd (power), 25 ~PB12 (T1-BK/T15-BK/NSS2/WS2/UsCK3/TS6-2) (io), 26 ~PB13 (SCK2/CK2/SCL2/US3-CTS/T1-1N/TS-6-3) (io), 27 ~PB14 (MISO2/MCK2/SDA2/UsRTS3/T1-2N/T15-1/TS6-4) (io), 28 ~PB15 (MOSI2/SD2/T1-3N/T15-1N/T15-2/WKUP7/RTC-REF) (io), 29 ~PA8 (UsCK1/T1-1/MCO/CRS-SYNC) (io), 30 ~PA9 (UsTx1/T1-2/T15-BK/TS4-1) (io), 31 ~PA10 (UsRx1/T1-3/T17-BK/TS4-2) (io), 32 ~PA11 (CAN-Rx/UsCTS1/T1-4/CMP1o/TS4-3/USB-DM) (io), 33 ~PA12 (CAN-Tx/UsRTS1/T1-E/CMP2o/TS4-4/USB-DP) (io), 34 (PA13/IRout/USB-NOE) SWDIO ~ (io), 35 Vss (power), 36 Vddio2 (power), 37 (PA14/UsTx2) SWCLK~ (io), 38 ~PA15(NSS1/WS1/UsRx2/UsRTS4/T2-1E) (io), 39 ~PB3(SCK1/CK1/T2-2/TS5-1) (io), 40 ~PB4(MISO1/MCK1/T17-BK/T3-1/TS5-2) (io), 41 ~PB5 (MOSI1/SD1/SMBA1/T16-BK/WKUP6) (io), 42 ~PB6 (SCL1/UsTx1/T16-1N/TS5-3) (io), 43 ~PB7 (SDA1/UsRx1/US4-CTS/T17-1N/TS5-4) (io), 44 BOOT0~ (io), 45 ~PB8 (SCL1/CEC/T16-1/TSC-SYNC/CAN-Rx) (io), 46 ~PB9 (NSS2/SDA1/IRout/T17-1/CAN-Tx) (io), 47 Vss (power), 48 Vdd (power)

## STM32F100CxTxB_LQFP48
designator U?
footprint LQFP48_UNICONT
pins: 1 Vbat (power), 2 PC13(TAMPER-RTC) (power), 3 (PC14) OSC32_IN (power), 4 (PC15) OSC32_OUT (power), 5 OSC_IN (power), 6 OSC_OUT (power), 7 NRST (power), 8 Vssa (power), 9 Vdda (power), 10 PA0 (WKUP/UCTS2/AD1-0/T2-1-ETR) (power), 11 PA1 (URTS2/AD1-1/T2-2) (power), 12 PA2 (UTx2/AD1-2/T2-3/T15-1) (power), 13 PA3 (URx2/AD1-3/T2-4/T15-2) (power), 14 PA4 (NSS1/AD1-4/UCK2/DAC1) (power), 15 PA5 (SCK1/AD1-5/DAC2) (power), 16 PA6 (MISO1/AD1-6/T3-1_T1-BK/T16-1) (power), 17 PA7 (MOSI1/AD1-7/T3-2_T1-1N/T17-1) (power), 18 PB0 (AD1-8/T3-3_T1-2N) (power), 19 PB1 (AD1-9/T3-4_T1-3N) (power), 20 ~(PB2) BOOT1 (power), 21 PB10 (SCL2/UTx3_T2-3/CEC)~ (power), 22 PB11 (SDA2/URx3_T2-4)~ (power), 23 Vss (power), 24 Vdd (power), 25 PB12 (NSS2/SMBA2/T1-BK/UCK3)~ (power), 26 PB13 (SCK2/T1-1N/UCTS3)~ (power), 27 PB14 (MISO2/T1-2N/URTS3_T15-1)~ (power), 28 PB15 (MOSI2/T1-3N/T15-1N_T15-2)~ (power), 29 PA8 (UCK1/MCO/T1-1)~ (power), 30 PA9 (UTx1/T1-2_T15-BK)~ (power), 31 PA10 (URx1/T1-3_T17-BK)~ (power), 32 PA11 (UCTS1/T1-4)~ (power), 33 PA12 (URTS1/T1-ETR)~ (power), 34 ~(PA13_) JTMS-SWDIO  (power), 35 Vss (power), 36 Vdd (power), 37  ~(PA14_) JTCK/SWCLK (power), 38 ~(PA15/T2-1-ETR/NSS1_) JTDI (power), 39 ~(PB3/T2-2/TRACESWO/SCK1_) JTDO (power), 40 ~(PB4/T3-1/MISO1_) NJTRST (power), 41 PB5 (SMBA1/T16-BK_T3-2/MOSI1) (power), 42 PB6 (SCL1/T4-1/T16-1N_UTx1)~ (power), 43 PB7 (SDA1/T17-1N/T4-2_URx1)~ (power), 44 BOOT0 (power), 45 PB8 (T4-3/T16-1/CEC_SCL1)~ (power), 46 PB9 (T4-4/T17-1_SDA1)~ (power), 47 Vss (power), 48 Vdd (power)

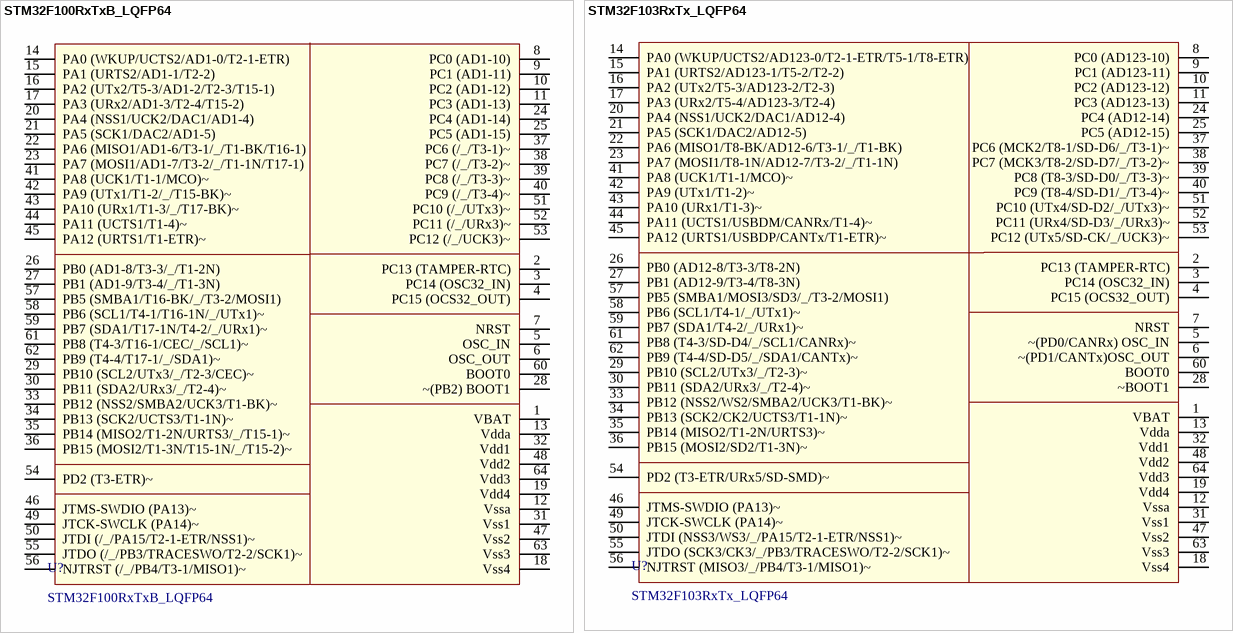
[diagram p29: symbols STM32F100RxTxB_LQFP64 to STM32F103RxTx_LQFP64]

## STM32F100RxTxB_LQFP64
designator U?
footprint LQFP64_UNICONT
pins: 1 VBAT, 2 PC13 (TAMPER-RTC), 3 PC14 (OSC32_IN), 4 PC15 (OCS32_OUT), 5 OSC_IN, 6 OSC_OUT, 7 NRST, 8 PC0 (AD1-10), 9 PC1 (AD1-11), 10 PC2 (AD1-12), 11 PC3 (AD1-13), 12 Vssa, 13 Vdda, 14 PA0 (WKUP/UCTS2/AD1-0/T2-1-ETR), 15 PA1 (URTS2/AD1-1/T2-2), 16 PA2 (UTx2/T5-3/AD1-2/T2-3/T15-1), 17 PA3 (URx2/AD1-3/T2-4/T15-2), 18 Vss4, 19 Vdd4, 20 PA4 (NSS1/UCK2/DAC1/AD1-4), 21 PA5 (SCK1/DAC2/AD1-5), 22 PA6 (MISO1/AD1-6/T3-1/_/T1-BK/T16-1), 23 PA7 (MOSI1/AD1-7/T3-2/_/T1-1N/T17-1), 24 PC4 (AD1-14), 25 PC5 (AD1-15), 26 PB0 (AD1-8/T3-3/_/T1-2N), 27 PB1 (AD1-9/T3-4/_/T1-3N), 28 ~(PB2) BOOT1, 29 PB10 (SCL2/UTx3/_/T2-3/CEC)~, 30 PB11 (SDA2/URx3/_/T2-4)~, 31 Vss1, 32 Vdd1, 33 PB12 (NSS2/SMBA2/UCK3/T1-BK)~, 34 PB13 (SCK2/UCTS3/T1-1N)~, 35 PB14 (MISO2/T1-2N/URTS3/_/T15-1)~, 36 PB15 (MOSI2/T1-3N/T15-1N/_/T15-2)~, 37 PC6 (/_/T3-1)~, 38 PC7 (/_/T3-2)~, 39 PC8 (/_/T3-3)~, 40 PC9 (/_/T3-4)~, 41 PA8 (UCK1/T1-1/MCO)~, 42 PA9 (UTx1/T1-2/_/T15-BK)~, 43 PA10 (URx1/T1-3/_/T17-BK)~, 44 PA11 (UCTS1/T1-4)~, 45 PA12 (URTS1/T1-ETR)~, 46 JTMS-SWDIO (PA13)~, 47 Vss2, 48 Vdd2, 49 JTCK-SWCLK (PA14)~, 50 JTDI (/_/PA15/T2-1-ETR/NSS1)~, 51 PC10 (/_/UTx3)~, 52 PC11 (/_/URx3)~, 53 PC12 (/_/UCK3)~, 54 PD2 (T3-ETR)~, 55 JTDO (/_/PB3/TRACESWO/T2-2/SCK1)~, 56 NJTRST (/_/PB4/T3-1/MISO1)~, 57 PB5 (SMBA1/T16-BK/_/T3-2/MOSI1), 58 PB6 (SCL1/T4-1/T16-1N/_/UTx1)~, 59 PB7 (SDA1/T17-1N/T4-2/_/URx1)~, 60 BOOT0, 61 PB8 (T4-3/T16-1/CEC/_/SCL1)~, 62 PB9 (T4-4/T17-1/_/SDA1)~, 63 Vss3, 64 Vdd3

## STM32F103RxTx_LQFP64
designator U?
footprint LQFP64_UNICONT
pins: 1 VBAT, 2 PC13 (TAMPER-RTC), 3 PC14 (OSC32_IN), 4 PC15 (OCS32_OUT), 5 ~(PD0/CANRx) OSC_IN, 6 ~(PD1/CANTx)OSC_OUT, 7 NRST, 8 PC0 (AD123-10), 9 PC1 (AD123-11), 10 PC2 (AD123-12), 11 PC3 (AD123-13), 12 Vssa, 13 Vdda, 14 PA0 (WKUP/UCTS2/AD123-0/T2-1-ETR/T5-1/T8-ETR), 15 PA1 (URTS2/AD123-1/T5-2/T2-2), 16 PA2 (UTx2/T5-3/AD123-2/T2-3), 17 PA3 (URx2/T5-4/AD123-3/T2-4), 18 Vss4, 19 Vdd4, 20 PA4 (NSS1/UCK2/DAC1/AD12-4), 21 PA5 (SCK1/DAC2/AD12-5), 22 PA6 (MISO1/T8-BK/AD12-6/T3-1/_/T1-BK), 23 PA7 (MOSI1/T8-1N/AD12-7/T3-2/_/T1-1N), 24 PC4 (AD12-14), 25 PC5 (AD12-15), 26 PB0 (AD12-8/T3-3/T8-2N), 27 PB1 (AD12-9/T3-4/T8-3N), 28 ~BOOT1, 29 PB10 (SCL2/UTx3/_/T2-3)~, 30 PB11 (SDA2/URx3/_/T2-4)~, 31 Vss1, 32 Vdd1, 33 PB12 (NSS2/WS2/SMBA2/UCK3/T1-BK)~, 34 PB13 (SCK2/CK2/UCTS3/T1-1N)~, 35 PB14 (MISO2/T1-2N/URTS3)~, 36 PB15 (MOSI2/SD2/T1-3N)~, 37 PC6 (MCK2/T8-1/SD-D6/_/T3-1)~, 38 PC7 (MCK3/T8-2/SD-D7/_/T3-2)~, 39 PC8 (T8-3/SD-D0/_/T3-3)~, 40 PC9 (T8-4/SD-D1/_/T3-4)~, 41 PA8 (UCK1/T1-1/MCO)~, 42 PA9 (UTx1/T1-2)~, 43 PA10 (URx1/T1-3)~, 44 PA11 (UCTS1/USBDM/CANRx/T1-4)~, 45 PA12 (URTS1/USBDP/CANTx/T1-ETR)~, 46 JTMS-SWDIO (PA13)~, 47 Vss2, 48 Vdd2, 49 JTCK-SWCLK (PA14)~, 50 JTDI (NSS3/WS3/_/PA15/T2-1-ETR/NSS1)~, 51 PC10 (UTx4/SD-D2/_/UTx3)~, 52 PC11 (URx4/SD-D3/_/URx3)~, 53 PC12 (UTx5/SD-CK/_/UCK3)~, 54 PD2 (T3-ETR/URx5/SD-SMD)~, 55 JTDO (SCK3/CK3/_/PB3/TRACESWO/T2-2/SCK1)~, 56 NJTRST (MISO3/_/PB4/T3-1/MISO1)~, 57 PB5 (SMBA1/MOSI3/SD3/_/T3-2/MOSI1), 58 PB6 (SCL1/T4-1/_/UTx1)~, 59 PB7 (SDA1/T4-2/_/URx1)~, 60 BOOT0, 61 PB8 (T4-3/SD-D4/_/SCL1/CANRx)~, 62 PB9 (T4-4/SD-D5/_/SDA1/CANTx)~, 63 Vss3, 64 Vdd3

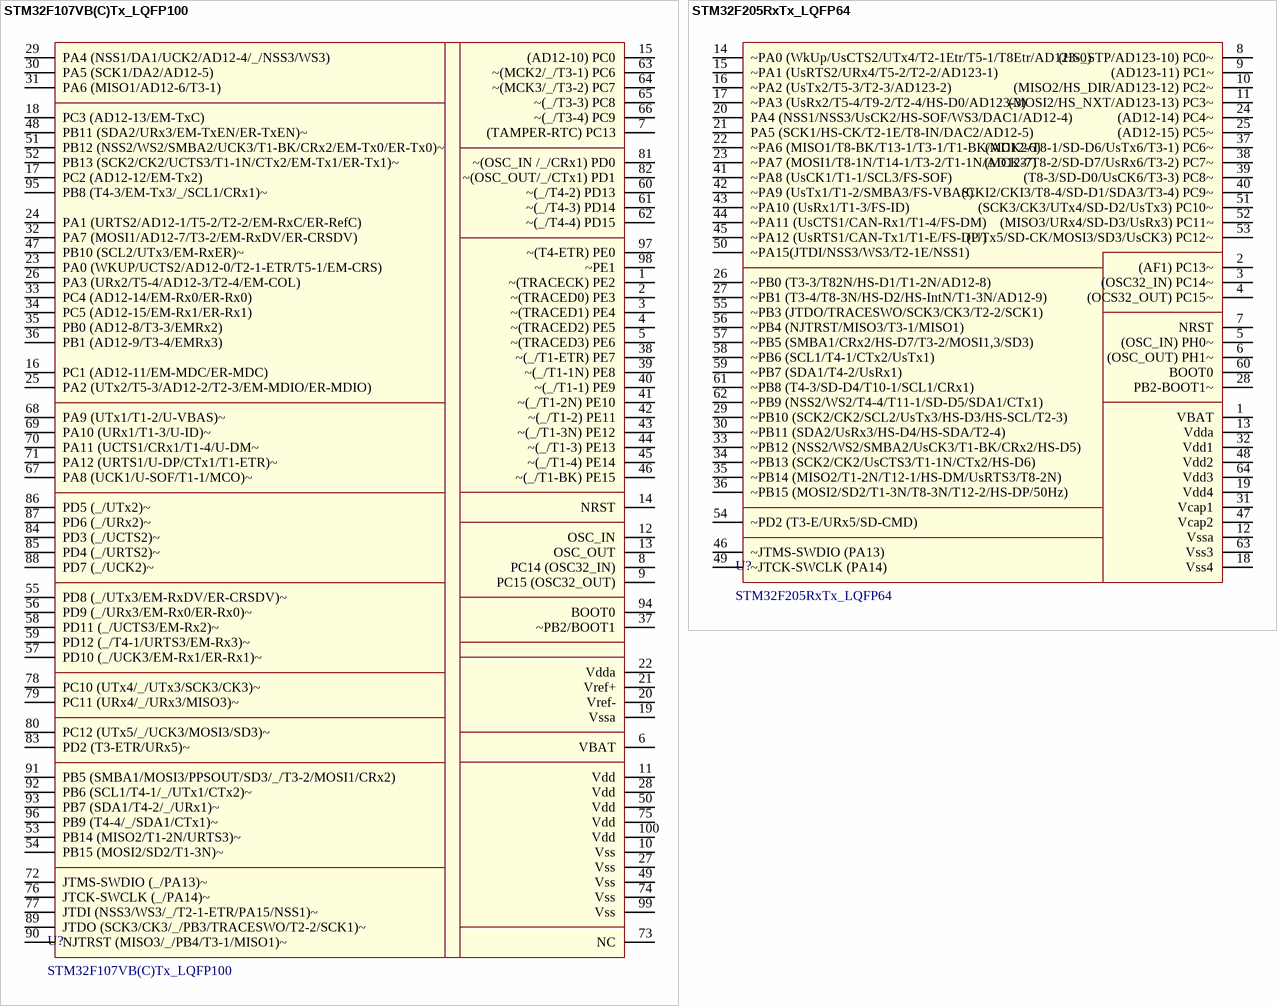
[diagram p30: symbols STM32F107VB(C)Tx_LQFP100 to STM32F205RxTx_LQFP64]